# Altium integrated library Xilinx PLD XC7000.IntLib: 173 symbols (part 2 of 7)
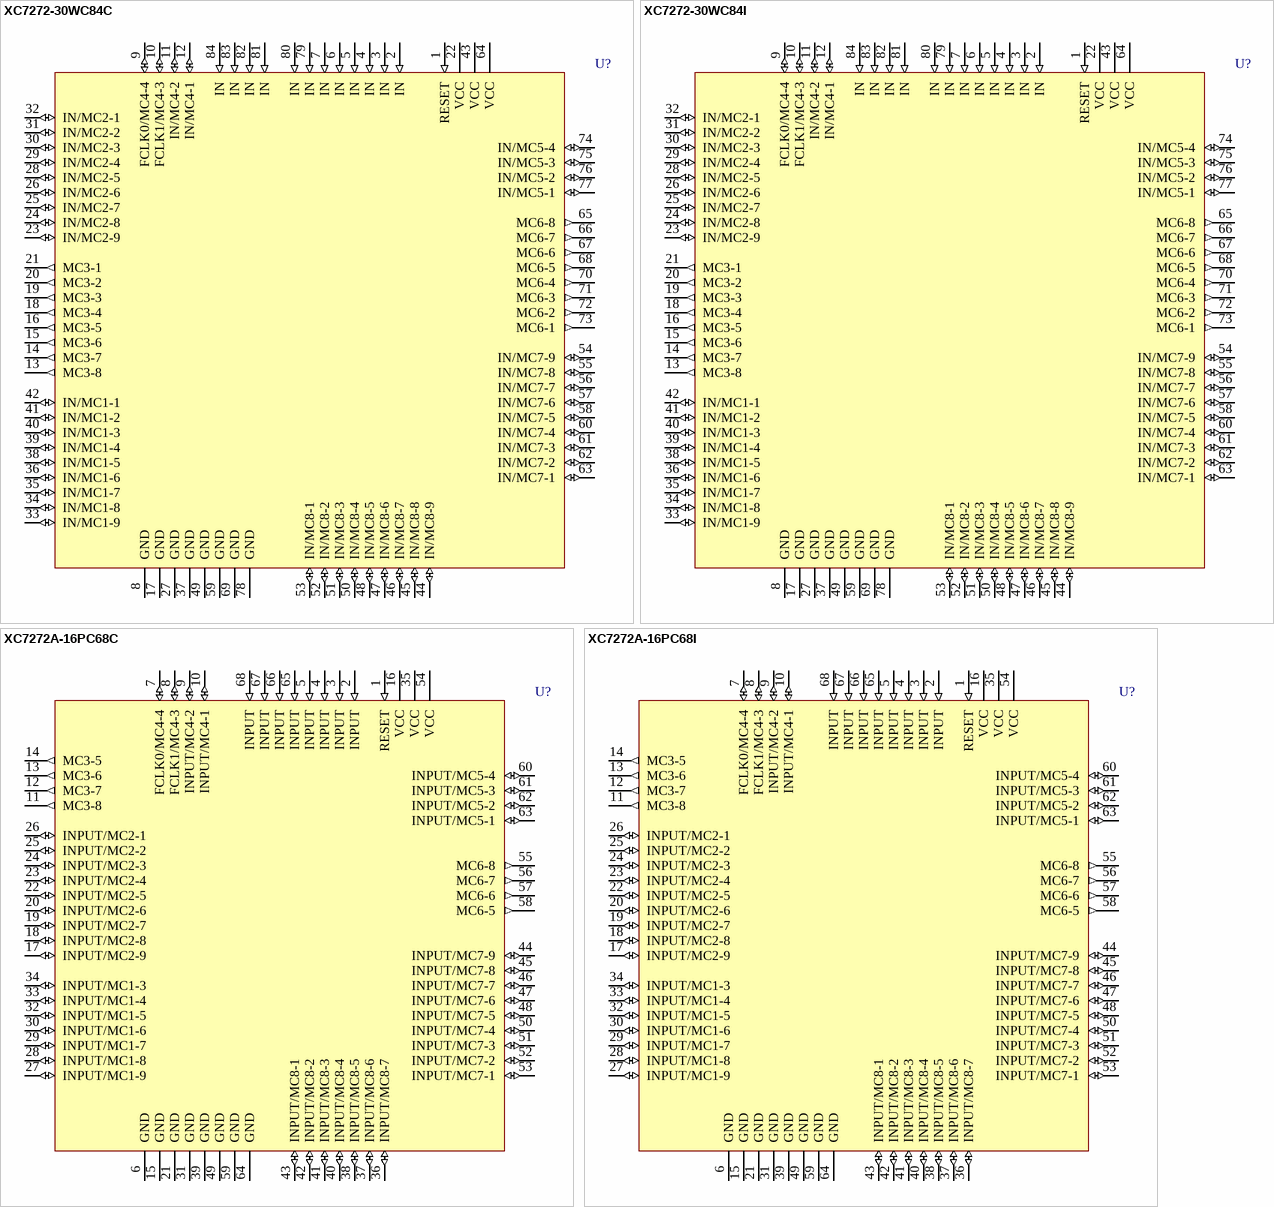
[diagram p48: symbols XC7272-30WC84C to XC7272A-16PC68I]

## XC7272-30WC84C
designator U?
Programmable Logic Device, with 42 I/O Pins, 84-Pin CLCC, Commercial Grade; PackageDocument: 1994; Published: 8-Jun-2000; LatestRevisionDate: 17-Jul-2002; LatestRevisionNote: Re-released for DXP Platform.; DatasheetDocument: 1993; PackageReference: WC84; Publisher: Altium Limited
footprint WC84 (84-Pin Windowed Ceramic Leaded Chip Carrier (WC84))
pins: 1 RESET (in), 2 IN (in), 3 IN (in), 4 IN (in), 5 IN (in), 6 IN (in), 7 IN (in), 8 GND (power), 9 FCLK0/MC4-4 (io), 10 FCLK1/MC4-3 (io), 11 IN/MC4-2 (io), 12 IN/MC4-1 (io), 13 MC3-8 (out), 14 MC3-7 (out), 15 MC3-6 (out), 16 MC3-5 (out), 17 GND (power), 18 MC3-4 (out), 19 MC3-3 (out), 20 MC3-2 (out), 21 MC3-1 (out), 22 VCC (power), 23 IN/MC2-9 (io), 24 IN/MC2-8 (io), 25 IN/MC2-7 (io), 26 IN/MC2-6 (io), 27 GND (power), 28 IN/MC2-5 (io), 29 IN/MC2-4 (io), 30 IN/MC2-3 (io), 31 IN/MC2-2 (io), 32 IN/MC2-1 (io), 33 IN/MC1-9 (io), 34 IN/MC1-8 (io), 35 IN/MC1-7 (io), 36 IN/MC1-6 (io), 37 GND (power), 38 IN/MC1-5 (io), 39 IN/MC1-4 (io), 40 IN/MC1-3 (io), 41 IN/MC1-2 (io), 42 IN/MC1-1 (io), 43 VCC (power), 44 IN/MC8-9 (io), 45 IN/MC8-8 (io), 46 IN/MC8-7 (io), 47 IN/MC8-6 (io), 48 IN/MC8-5 (io), 49 GND (power), 50 IN/MC8-4 (io), 51 IN/MC8-3 (io), 52 IN/MC8-2 (io), 53 IN/MC8-1 (io), 54 IN/MC7-9 (io), 55 IN/MC7-8 (io), 56 IN/MC7-7 (io), 57 IN/MC7-6 (io), 58 IN/MC7-5 (io), 59 GND (power), 60 IN/MC7-4 (io), 61 IN/MC7-3 (io), 62 IN/MC7-2 (io), 63 IN/MC7-1 (io), 64 VCC (power), 65 MC6-8 (out), 66 MC6-7 (out), 67 MC6-6 (out), 68 MC6-5 (out), 69 GND (power), 70 MC6-4 (out), 71 MC6-3 (out), 72 MC6-2 (out), 73 MC6-1 (out), 74 IN/MC5-4 (io), 75 IN/MC5-3 (io), 76 IN/MC5-2 (io), 77 IN/MC5-1 (io), 78 GND (power), 79 IN (in), 80 IN (in), 81 IN (in), 82 IN (in), 83 IN (in), 84 IN (in)

## XC7272-30WC84I
designator U?
Programmable Logic Device, with 42 I/O Pins, 84-Pin CLCC, Industrial Grade; PackageDocument: 1994; Published: 8-Jun-2000; LatestRevisionDate: 17-Jul-2002; LatestRevisionNote: Re-released for DXP Platform.; DatasheetDocument: 1993; PackageReference: WC84; Publisher: Altium Limited
footprint WC84 (84-Pin Windowed Ceramic Leaded Chip Carrier (WC84))
pins: 1 RESET (in), 2 IN (in), 3 IN (in), 4 IN (in), 5 IN (in), 6 IN (in), 7 IN (in), 8 GND (power), 9 FCLK0/MC4-4 (io), 10 FCLK1/MC4-3 (io), 11 IN/MC4-2 (io), 12 IN/MC4-1 (io), 13 MC3-8 (out), 14 MC3-7 (out), 15 MC3-6 (out), 16 MC3-5 (out), 17 GND (power), 18 MC3-4 (out), 19 MC3-3 (out), 20 MC3-2 (out), 21 MC3-1 (out), 22 VCC (power), 23 IN/MC2-9 (io), 24 IN/MC2-8 (io), 25 IN/MC2-7 (io), 26 IN/MC2-6 (io), 27 GND (power), 28 IN/MC2-5 (io), 29 IN/MC2-4 (io), 30 IN/MC2-3 (io), 31 IN/MC2-2 (io), 32 IN/MC2-1 (io), 33 IN/MC1-9 (io), 34 IN/MC1-8 (io), 35 IN/MC1-7 (io), 36 IN/MC1-6 (io), 37 GND (power), 38 IN/MC1-5 (io), 39 IN/MC1-4 (io), 40 IN/MC1-3 (io), 41 IN/MC1-2 (io), 42 IN/MC1-1 (io), 43 VCC (power), 44 IN/MC8-9 (io), 45 IN/MC8-8 (io), 46 IN/MC8-7 (io), 47 IN/MC8-6 (io), 48 IN/MC8-5 (io), 49 GND (power), 50 IN/MC8-4 (io), 51 IN/MC8-3 (io), 52 IN/MC8-2 (io), 53 IN/MC8-1 (io), 54 IN/MC7-9 (io), 55 IN/MC7-8 (io), 56 IN/MC7-7 (io), 57 IN/MC7-6 (io), 58 IN/MC7-5 (io), 59 GND (power), 60 IN/MC7-4 (io), 61 IN/MC7-3 (io), 62 IN/MC7-2 (io), 63 IN/MC7-1 (io), 64 VCC (power), 65 MC6-8 (out), 66 MC6-7 (out), 67 MC6-6 (out), 68 MC6-5 (out), 69 GND (power), 70 MC6-4 (out), 71 MC6-3 (out), 72 MC6-2 (out), 73 MC6-1 (out), 74 IN/MC5-4 (io), 75 IN/MC5-3 (io), 76 IN/MC5-2 (io), 77 IN/MC5-1 (io), 78 GND (power), 79 IN (in), 80 IN (in), 81 IN (in), 82 IN (in), 83 IN (in), 84 IN (in)

## XC7272A-16PC68C
designator U?
72 Macrocell CMOS EPLD, with 38 I/O Pins, 68-Pin PLCC, Commercial Grade; PackageDocument: ver1.0, Jun-2000; Published: 8-Jun-2000; LatestRevisionDate: 17-Sep-2003; LatestRevisionNote: PCB Footprint dimensions updated; DatasheetDocument: 1994; PackageReference: PC68; Publisher: Altium Limited; Code_JEDEC: MO-047; Code_IPC: PLCC-68
footprint PC68 (68-Pin Plastic Leaded Chip Carrier (PC68))
pins: 1 RESET (in), 2 INPUT (in), 3 INPUT (in), 4 INPUT (in), 5 INPUT (in), 6 GND (power), 7 FCLK0/MC4-4 (io), 8 FCLK1/MC4-3 (io), 9 INPUT/MC4-2 (io), 10 INPUT/MC4-1 (io), 11 MC3-8 (out), 12 MC3-7 (out), 13 MC3-6 (out), 14 MC3-5 (out), 15 GND (power), 16 VCC (power), 17 INPUT/MC2-9 (io), 18 INPUT/MC2-8 (io), 19 INPUT/MC2-7 (io), 20 INPUT/MC2-6 (io), 21 GND (power), 22 INPUT/MC2-5 (io), 23 INPUT/MC2-4 (io), 24 INPUT/MC2-3 (io), 25 INPUT/MC2-2 (io), 26 INPUT/MC2-1 (io), 27 INPUT/MC1-9 (io), 28 INPUT/MC1-8 (io), 29 INPUT/MC1-7 (io), 30 INPUT/MC1-6 (io), 31 GND (power), 32 INPUT/MC1-5 (io), 33 INPUT/MC1-4 (io), 34 INPUT/MC1-3 (io), 35 VCC (power), 36 INPUT/MC8-7 (io), 37 INPUT/MC8-6 (io), 38 INPUT/MC8-5 (io), 39 GND (power), 40 INPUT/MC8-4 (io), 41 INPUT/MC8-3 (io), 42 INPUT/MC8-2 (io), 43 INPUT/MC8-1 (io), 44 INPUT/MC7-9 (io), 45 INPUT/MC7-8 (io), 46 INPUT/MC7-7 (io), 47 INPUT/MC7-6 (io), 48 INPUT/MC7-5 (io), 49 GND (power), 50 INPUT/MC7-4 (io), 51 INPUT/MC7-3 (io), 52 INPUT/MC7-2 (io), 53 INPUT/MC7-1 (io), 54 VCC (power), 55 MC6-8 (out), 56 MC6-7 (out), 57 MC6-6 (out), 58 MC6-5 (out), 59 GND, 60 INPUT/MC5-4 (io), 61 INPUT/MC5-3 (io), 62 INPUT/MC5-2 (io), 63 INPUT/MC5-1 (io), 64 GND (power), 65 INPUT (in), 66 INPUT (in), 67 INPUT (in), 68 INPUT (in)

## XC7272A-16PC68I
designator U?
72 Macrocell CMOS EPLD, with 38 I/O Pins, 68-Pin PLCC, Industrial Grade; PackageDocument: ver1.0, Jun-2000; Published: 8-Jun-2000; LatestRevisionDate: 17-Sep-2003; LatestRevisionNote: PCB Footprint dimensions updated; DatasheetDocument: 1994; PackageReference: PC68; Publisher: Altium Limited; Code_JEDEC: MO-047; Code_IPC: PLCC-68
footprint PC68 (68-Pin Plastic Leaded Chip Carrier (PC68))
pins: 1 RESET (in), 2 INPUT (in), 3 INPUT (in), 4 INPUT (in), 5 INPUT (in), 6 GND (power), 7 FCLK0/MC4-4 (io), 8 FCLK1/MC4-3 (io), 9 INPUT/MC4-2 (io), 10 INPUT/MC4-1 (io), 11 MC3-8 (out), 12 MC3-7 (out), 13 MC3-6 (out), 14 MC3-5 (out), 15 GND (power), 16 VCC (power), 17 INPUT/MC2-9 (io), 18 INPUT/MC2-8 (io), 19 INPUT/MC2-7 (io), 20 INPUT/MC2-6 (io), 21 GND (power), 22 INPUT/MC2-5 (io), 23 INPUT/MC2-4 (io), 24 INPUT/MC2-3 (io), 25 INPUT/MC2-2 (io), 26 INPUT/MC2-1 (io), 27 INPUT/MC1-9 (io), 28 INPUT/MC1-8 (io), 29 INPUT/MC1-7 (io), 30 INPUT/MC1-6 (io), 31 GND (power), 32 INPUT/MC1-5 (io), 33 INPUT/MC1-4 (io), 34 INPUT/MC1-3 (io), 35 VCC (power), 36 INPUT/MC8-7 (io), 37 INPUT/MC8-6 (io), 38 INPUT/MC8-5 (io), 39 GND (power), 40 INPUT/MC8-4 (io), 41 INPUT/MC8-3 (io), 42 INPUT/MC8-2 (io), 43 INPUT/MC8-1 (io), 44 INPUT/MC7-9 (io), 45 INPUT/MC7-8 (io), 46 INPUT/MC7-7 (io), 47 INPUT/MC7-6 (io), 48 INPUT/MC7-5 (io), 49 GND (power), 50 INPUT/MC7-4 (io), 51 INPUT/MC7-3 (io), 52 INPUT/MC7-2 (io), 53 INPUT/MC7-1 (io), 54 VCC (power), 55 MC6-8 (out), 56 MC6-7 (out), 57 MC6-6 (out), 58 MC6-5 (out), 59 GND, 60 INPUT/MC5-4 (io), 61 INPUT/MC5-3 (io), 62 INPUT/MC5-2 (io), 63 INPUT/MC5-1 (io), 64 GND (power), 65 INPUT (in), 66 INPUT (in), 67 INPUT (in), 68 INPUT (in)

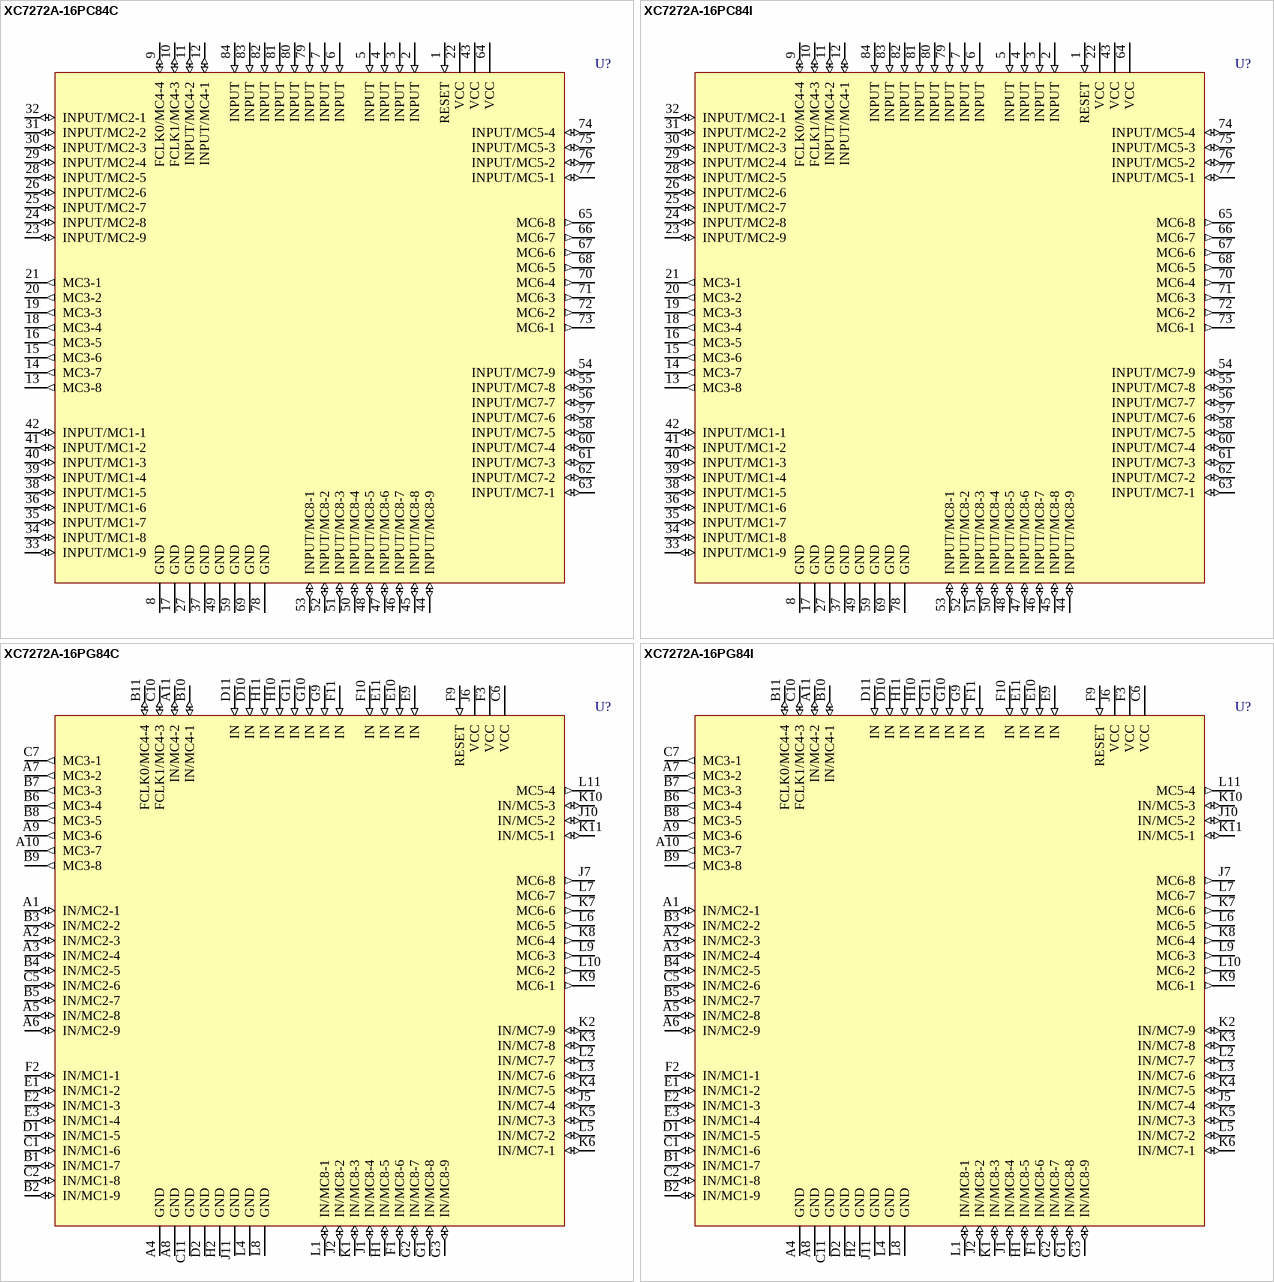
[diagram p7: symbols XC7272A-16PC84C to XC7272A-16PG84I]

## XC7272A-16PC84C
designator U?
72 Macrocell CMOS EPLD, with 42 I/O Pins, 84-Pin PLCC, Commercial Grade; PackageDocument: ver1.0, Jun-2000; Published: 8-Jun-2000; LatestRevisionDate: 17-Sep-2003; LatestRevisionNote: PCB Footprint dimensions updated; DatasheetDocument: 1994; PackageReference: PC84; Publisher: Altium Limited; Code_JEDEC: MS-047; Code_IPC: PLCC-84
footprint PC84 (84-Pin Plastic Leaded Chip Carrier (PC84))
pins: 1 RESET (in), 2 INPUT (in), 3 INPUT (in), 4 INPUT (in), 5 INPUT (in), 6 INPUT (in), 7 INPUT (in), 8 GND (power), 9 FCLK0/MC4-4 (io), 10 FCLK1/MC4-3 (io), 11 INPUT/MC4-2 (io), 12 INPUT/MC4-1 (io), 13 MC3-8 (out), 14 MC3-7 (out), 15 MC3-6 (out), 16 MC3-5 (out), 17 GND (power), 18 MC3-4 (out), 19 MC3-3 (out), 20 MC3-2 (out), 21 MC3-1 (out), 22 VCC (power), 23 INPUT/MC2-9 (io), 24 INPUT/MC2-8 (io), 25 INPUT/MC2-7 (io), 26 INPUT/MC2-6 (io), 27 GND (power), 28 INPUT/MC2-5 (io), 29 INPUT/MC2-4 (io), 30 INPUT/MC2-3 (io), 31 INPUT/MC2-2 (io), 32 INPUT/MC2-1 (io), 33 INPUT/MC1-9 (io), 34 INPUT/MC1-8 (io), 35 INPUT/MC1-7 (io), 36 INPUT/MC1-6 (io), 37 GND (power), 38 INPUT/MC1-5 (io), 39 INPUT/MC1-4 (io), 40 INPUT/MC1-3 (io), 41 INPUT/MC1-2 (io), 42 INPUT/MC1-1 (io), 43 VCC (power), 44 INPUT/MC8-9 (io), 45 INPUT/MC8-8 (io), 46 INPUT/MC8-7 (io), 47 INPUT/MC8-6 (io), 48 INPUT/MC8-5 (io), 49 GND (power), 50 INPUT/MC8-4 (io), 51 INPUT/MC8-3 (io), 52 INPUT/MC8-2 (io), 53 INPUT/MC8-1 (io), 54 INPUT/MC7-9 (io), 55 INPUT/MC7-8 (io), 56 INPUT/MC7-7 (io), 57 INPUT/MC7-6 (io), 58 INPUT/MC7-5 (io), 59 GND (power), 60 INPUT/MC7-4 (io), 61 INPUT/MC7-3 (io), 62 INPUT/MC7-2 (io), 63 INPUT/MC7-1 (io), 64 VCC (power), 65 MC6-8 (out), 66 MC6-7 (out), 67 MC6-6 (out), 68 MC6-5 (out), 69 GND (power), 70 MC6-4 (out), 71 MC6-3 (out), 72 MC6-2 (out), 73 MC6-1 (out), 74 INPUT/MC5-4 (io), 75 INPUT/MC5-3 (io), 76 INPUT/MC5-2 (io), 77 INPUT/MC5-1 (io), 78 GND (power), 79 INPUT (in), 80 INPUT (in), 81 INPUT (in), 82 INPUT (in), 83 INPUT (in), 84 INPUT (in)

## XC7272A-16PC84I
designator U?
72 Macrocell CMOS EPLD, with 42 I/O Pins, 84-Pin PLCC, Industrial Grade; PackageDocument: ver1.0, Jun-2000; Published: 8-Jun-2000; LatestRevisionDate: 17-Sep-2003; LatestRevisionNote: PCB Footprint dimensions updated; DatasheetDocument: 1994; PackageReference: PC84; Publisher: Altium Limited; Code_JEDEC: MS-047; Code_IPC: PLCC-84
footprint PC84 (84-Pin Plastic Leaded Chip Carrier (PC84))
pins: 1 RESET (in), 2 INPUT (in), 3 INPUT (in), 4 INPUT (in), 5 INPUT (in), 6 INPUT (in), 7 INPUT (in), 8 GND (power), 9 FCLK0/MC4-4 (io), 10 FCLK1/MC4-3 (io), 11 INPUT/MC4-2 (io), 12 INPUT/MC4-1 (io), 13 MC3-8 (out), 14 MC3-7 (out), 15 MC3-6 (out), 16 MC3-5 (out), 17 GND (power), 18 MC3-4 (out), 19 MC3-3 (out), 20 MC3-2 (out), 21 MC3-1 (out), 22 VCC (power), 23 INPUT/MC2-9 (io), 24 INPUT/MC2-8 (io), 25 INPUT/MC2-7 (io), 26 INPUT/MC2-6 (io), 27 GND (power), 28 INPUT/MC2-5 (io), 29 INPUT/MC2-4 (io), 30 INPUT/MC2-3 (io), 31 INPUT/MC2-2 (io), 32 INPUT/MC2-1 (io), 33 INPUT/MC1-9 (io), 34 INPUT/MC1-8 (io), 35 INPUT/MC1-7 (io), 36 INPUT/MC1-6 (io), 37 GND (power), 38 INPUT/MC1-5 (io), 39 INPUT/MC1-4 (io), 40 INPUT/MC1-3 (io), 41 INPUT/MC1-2 (io), 42 INPUT/MC1-1 (io), 43 VCC (power), 44 INPUT/MC8-9 (io), 45 INPUT/MC8-8 (io), 46 INPUT/MC8-7 (io), 47 INPUT/MC8-6 (io), 48 INPUT/MC8-5 (io), 49 GND (power), 50 INPUT/MC8-4 (io), 51 INPUT/MC8-3 (io), 52 INPUT/MC8-2 (io), 53 INPUT/MC8-1 (io), 54 INPUT/MC7-9 (io), 55 INPUT/MC7-8 (io), 56 INPUT/MC7-7 (io), 57 INPUT/MC7-6 (io), 58 INPUT/MC7-5 (io), 59 GND (power), 60 INPUT/MC7-4 (io), 61 INPUT/MC7-3 (io), 62 INPUT/MC7-2 (io), 63 INPUT/MC7-1 (io), 64 VCC (power), 65 MC6-8 (out), 66 MC6-7 (out), 67 MC6-6 (out), 68 MC6-5 (out), 69 GND (power), 70 MC6-4 (out), 71 MC6-3 (out), 72 MC6-2 (out), 73 MC6-1 (out), 74 INPUT/MC5-4 (io), 75 INPUT/MC5-3 (io), 76 INPUT/MC5-2 (io), 77 INPUT/MC5-1 (io), 78 GND (power), 79 INPUT (in), 80 INPUT (in), 81 INPUT (in), 82 INPUT (in), 83 INPUT (in), 84 INPUT (in)

## XC7272A-16PG84C
designator U?
72 Macrocell CMOS EPLD, with 42 I/O Pins, 84-Pin WCPGA, Commercial Grade; PackageDocument: 1994; Published: 8-Jun-2000; LatestRevisionDate: 17-Jul-2002; LatestRevisionNote: Re-released for DXP Platform.; DatasheetDocument: 1994; PackageReference: WG84; Publisher: Altium Limited
footprint WG84 (84-Pin Windowed Ceramic PGA (PG84))
pins: A1 IN/MC2-1 (io), A2 IN/MC2-3 (io), A3 IN/MC2-4 (io), A4 GND (power), A5 IN/MC2-8 (io), A6 IN/MC2-9 (io), A7 MC3-2 (out), A8 GND (power), A9 MC3-6 (out), A10 MC3-7 (out), A11 IN/MC4-2 (io), B1 IN/MC1-7 (io), B2 IN/MC1-9 (io), B3 IN/MC2-2 (io), B4 IN/MC2-5 (io), B5 IN/MC2-7 (io), B6 MC3-4 (out), B7 MC3-3 (out), B8 MC3-5 (out), B9 MC3-8 (out), B10 IN/MC4-1 (io), B11 FCLK0/MC4-4 (io), C1 IN/MC1-6 (io), C2 IN/MC1-8 (io), C5 IN/MC2-6 (io), C6 VCC (power), C7 MC3-1 (out), C10 FCLK1/MC4-3 (io), C11 GND (power), D1 IN/MC1-5 (io), D2 GND (power), D10 IN (in), D11 IN (in), E1 IN/MC1-2 (io), E2 IN/MC1-3 (io), E3 IN/MC1-4 (io), E9 IN (in), E10 IN (in), E11 IN (in), F1 IN/MC8-6 (io), F2 IN/MC1-1 (io), F3 VCC (power), F9 RESET (in), F10 IN (in), F11 IN (in), G1 IN/MC8-8 (io), G2 IN/MC8-7 (io), G3 IN/MC8-9 (io), G9 IN (in), G10 IN (in), G11 IN (in), H1 IN/MC8-5 (io), H2 GND (power), H10 IN (in), H11 IN (in), J1 IN/MC8-4 (io), J2 IN/MC8-2 (io), J5 IN/MC7-4 (io), J6 VCC (power), J7 MC6-8 (out), J10 IN/MC5-2 (io), J11 GND (power), K1 IN/MC8-3 (io), K2 IN/MC7-9 (io), K3 IN/MC7-8 (io), K4 IN/MC7-5 (io), K5 IN/MC7-3 (io), K6 IN/MC7-1 (io), K7 MC6-6 (out), K8 MC6-4 (out), K9 MC6-1 (out), K10 IN/MC5-3 (io), K11 IN/MC5-1 (io), L1 IN/MC8-1 (io), L2 IN/MC7-7 (io), L3 IN/MC7-6 (io), L4 GND (power), L5 IN/MC7-2 (io), L6 MC6-5 (out), L7 MC6-7 (out), L8 GND (power), L9 MC6-3 (out), L10 MC6-2 (out), L11 MC5-4 (out)

## XC7272A-16PG84I
designator U?
72 Macrocell CMOS EPLD, with 42 I/O Pins, 84-Pin WCPGA, Industrial Grade; PackageDocument: 1994; Published: 8-Jun-2000; LatestRevisionDate: 17-Jul-2002; LatestRevisionNote: Re-released for DXP Platform.; DatasheetDocument: 1994; PackageReference: WG84; Publisher: Altium Limited
footprint WG84 (84-Pin Windowed Ceramic PGA (PG84))
pins: A1 IN/MC2-1 (io), A2 IN/MC2-3 (io), A3 IN/MC2-4 (io), A4 GND (power), A5 IN/MC2-8 (io), A6 IN/MC2-9 (io), A7 MC3-2 (out), A8 GND (power), A9 MC3-6 (out), A10 MC3-7 (out), A11 IN/MC4-2 (io), B1 IN/MC1-7 (io), B2 IN/MC1-9 (io), B3 IN/MC2-2 (io), B4 IN/MC2-5 (io), B5 IN/MC2-7 (io), B6 MC3-4 (out), B7 MC3-3 (out), B8 MC3-5 (out), B9 MC3-8 (out), B10 IN/MC4-1 (io), B11 FCLK0/MC4-4 (io), C1 IN/MC1-6 (io), C2 IN/MC1-8 (io), C5 IN/MC2-6 (io), C6 VCC (power), C7 MC3-1 (out), C10 FCLK1/MC4-3 (io), C11 GND (power), D1 IN/MC1-5 (io), D2 GND (power), D10 IN (in), D11 IN (in), E1 IN/MC1-2 (io), E2 IN/MC1-3 (io), E3 IN/MC1-4 (io), E9 IN (in), E10 IN (in), E11 IN (in), F1 IN/MC8-6 (io), F2 IN/MC1-1 (io), F3 VCC (power), F9 RESET (in), F10 IN (in), F11 IN (in), G1 IN/MC8-8 (io), G2 IN/MC8-7 (io), G3 IN/MC8-9 (io), G9 IN (in), G10 IN (in), G11 IN (in), H1 IN/MC8-5 (io), H2 GND (power), H10 IN (in), H11 IN (in), J1 IN/MC8-4 (io), J2 IN/MC8-2 (io), J5 IN/MC7-4 (io), J6 VCC (power), J7 MC6-8 (out), J10 IN/MC5-2 (io), J11 GND (power), K1 IN/MC8-3 (io), K2 IN/MC7-9 (io), K3 IN/MC7-8 (io), K4 IN/MC7-5 (io), K5 IN/MC7-3 (io), K6 IN/MC7-1 (io), K7 MC6-6 (out), K8 MC6-4 (out), K9 MC6-1 (out), K10 IN/MC5-3 (io), K11 IN/MC5-1 (io), L1 IN/MC8-1 (io), L2 IN/MC7-7 (io), L3 IN/MC7-6 (io), L4 GND (power), L5 IN/MC7-2 (io), L6 MC6-5 (out), L7 MC6-7 (out), L8 GND (power), L9 MC6-3 (out), L10 MC6-2 (out), L11 MC5-4 (out)

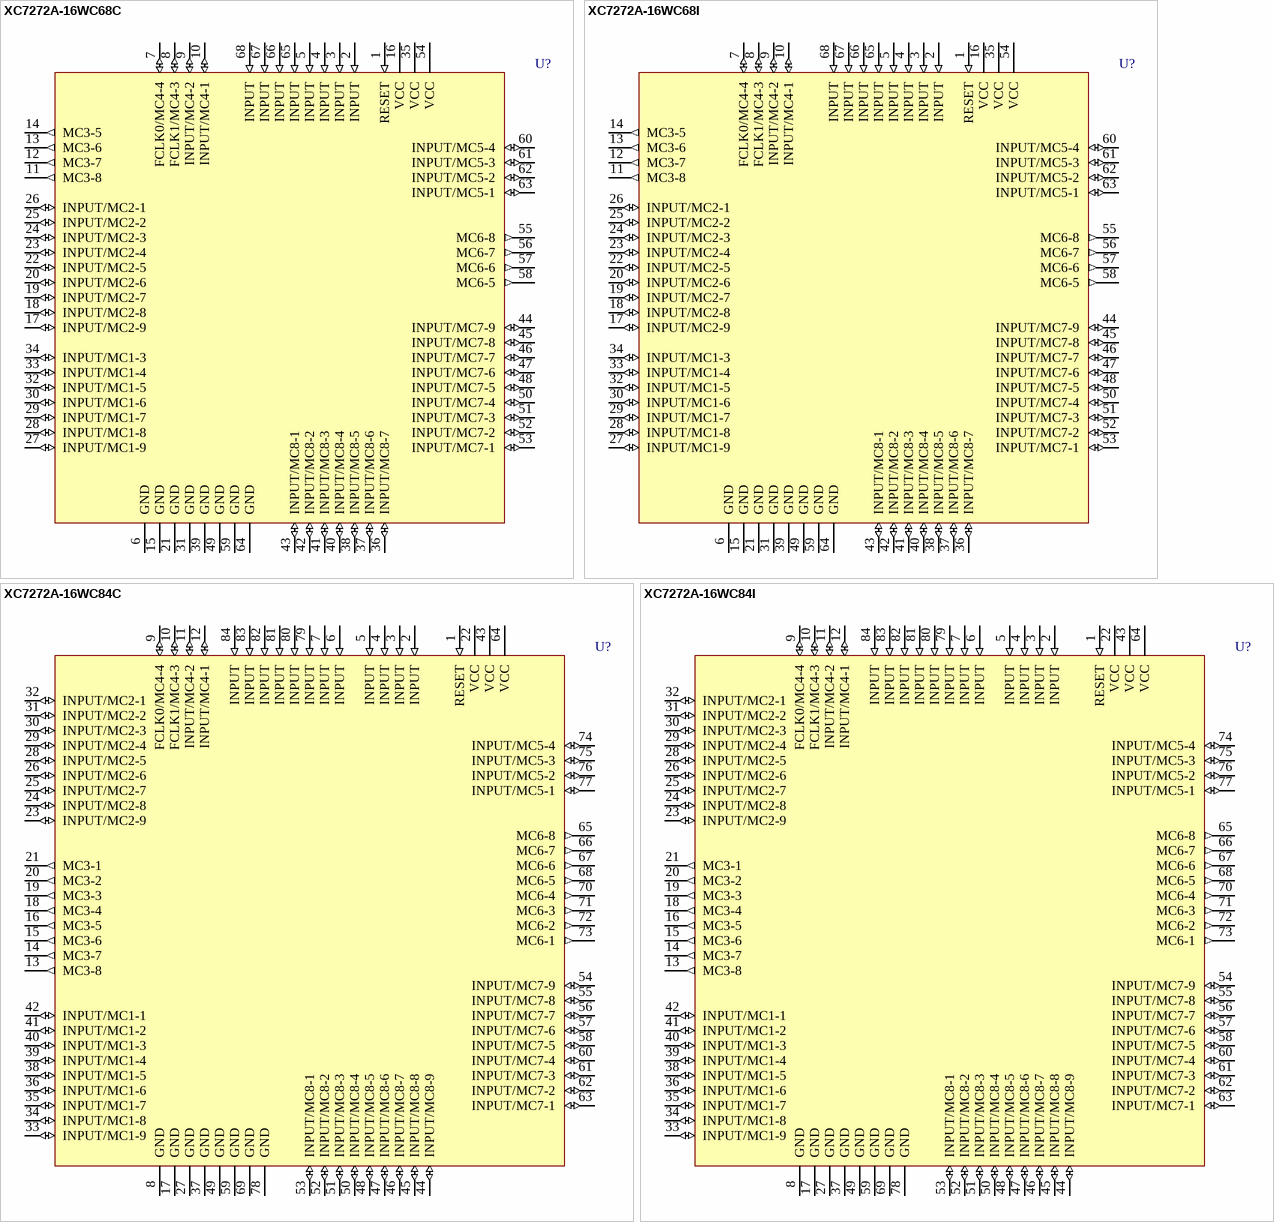
[diagram p8: symbols XC7272A-16WC68C to XC7272A-16WC84I]

## XC7272A-16WC68C
designator U?
72 Macrocell CMOS EPLD, with 38 I/O Pins, 68-Pin CLCC, Commercial Grade; PackageDocument: 1994; Published: 8-Jun-2000; LatestRevisionDate: 17-Jul-2002; LatestRevisionNote: Re-released for DXP Platform.; DatasheetDocument: 1994; PackageReference: WC68; Publisher: Altium Limited
footprint WC68 (68-Pin Windowed Ceramic Leaded Chip Carrier (WC68))
pins: 1 RESET (in), 2 INPUT (in), 3 INPUT (in), 4 INPUT (in), 5 INPUT (in), 6 GND (power), 7 FCLK0/MC4-4 (io), 8 FCLK1/MC4-3 (io), 9 INPUT/MC4-2 (io), 10 INPUT/MC4-1 (io), 11 MC3-8 (out), 12 MC3-7 (out), 13 MC3-6 (out), 14 MC3-5 (out), 15 GND (power), 16 VCC (power), 17 INPUT/MC2-9 (io), 18 INPUT/MC2-8 (io), 19 INPUT/MC2-7 (io), 20 INPUT/MC2-6 (io), 21 GND (power), 22 INPUT/MC2-5 (io), 23 INPUT/MC2-4 (io), 24 INPUT/MC2-3 (io), 25 INPUT/MC2-2 (io), 26 INPUT/MC2-1 (io), 27 INPUT/MC1-9 (io), 28 INPUT/MC1-8 (io), 29 INPUT/MC1-7 (io), 30 INPUT/MC1-6 (io), 31 GND (power), 32 INPUT/MC1-5 (io), 33 INPUT/MC1-4 (io), 34 INPUT/MC1-3 (io), 35 VCC (power), 36 INPUT/MC8-7 (io), 37 INPUT/MC8-6 (io), 38 INPUT/MC8-5 (io), 39 GND (power), 40 INPUT/MC8-4 (io), 41 INPUT/MC8-3 (io), 42 INPUT/MC8-2 (io), 43 INPUT/MC8-1 (io), 44 INPUT/MC7-9 (io), 45 INPUT/MC7-8 (io), 46 INPUT/MC7-7 (io), 47 INPUT/MC7-6 (io), 48 INPUT/MC7-5 (io), 49 GND (power), 50 INPUT/MC7-4 (io), 51 INPUT/MC7-3 (io), 52 INPUT/MC7-2 (io), 53 INPUT/MC7-1 (io), 54 VCC (power), 55 MC6-8 (out), 56 MC6-7 (out), 57 MC6-6 (out), 58 MC6-5 (out), 59 GND, 60 INPUT/MC5-4 (io), 61 INPUT/MC5-3 (io), 62 INPUT/MC5-2 (io), 63 INPUT/MC5-1 (io), 64 GND (power), 65 INPUT (in), 66 INPUT (in), 67 INPUT (in), 68 INPUT (in)

## XC7272A-16WC68I
designator U?
72 Macrocell CMOS EPLD, with 38 I/O Pins, 68-Pin CLCC, Industrial Grade; PackageDocument: 1994; Published: 8-Jun-2000; LatestRevisionDate: 17-Jul-2002; LatestRevisionNote: Re-released for DXP Platform.; DatasheetDocument: 1994; PackageReference: WC68; Publisher: Altium Limited
footprint WC68 (68-Pin Windowed Ceramic Leaded Chip Carrier (WC68))
pins: 1 RESET (in), 2 INPUT (in), 3 INPUT (in), 4 INPUT (in), 5 INPUT (in), 6 GND (power), 7 FCLK0/MC4-4 (io), 8 FCLK1/MC4-3 (io), 9 INPUT/MC4-2 (io), 10 INPUT/MC4-1 (io), 11 MC3-8 (out), 12 MC3-7 (out), 13 MC3-6 (out), 14 MC3-5 (out), 15 GND (power), 16 VCC (power), 17 INPUT/MC2-9 (io), 18 INPUT/MC2-8 (io), 19 INPUT/MC2-7 (io), 20 INPUT/MC2-6 (io), 21 GND (power), 22 INPUT/MC2-5 (io), 23 INPUT/MC2-4 (io), 24 INPUT/MC2-3 (io), 25 INPUT/MC2-2 (io), 26 INPUT/MC2-1 (io), 27 INPUT/MC1-9 (io), 28 INPUT/MC1-8 (io), 29 INPUT/MC1-7 (io), 30 INPUT/MC1-6 (io), 31 GND (power), 32 INPUT/MC1-5 (io), 33 INPUT/MC1-4 (io), 34 INPUT/MC1-3 (io), 35 VCC (power), 36 INPUT/MC8-7 (io), 37 INPUT/MC8-6 (io), 38 INPUT/MC8-5 (io), 39 GND (power), 40 INPUT/MC8-4 (io), 41 INPUT/MC8-3 (io), 42 INPUT/MC8-2 (io), 43 INPUT/MC8-1 (io), 44 INPUT/MC7-9 (io), 45 INPUT/MC7-8 (io), 46 INPUT/MC7-7 (io), 47 INPUT/MC7-6 (io), 48 INPUT/MC7-5 (io), 49 GND (power), 50 INPUT/MC7-4 (io), 51 INPUT/MC7-3 (io), 52 INPUT/MC7-2 (io), 53 INPUT/MC7-1 (io), 54 VCC (power), 55 MC6-8 (out), 56 MC6-7 (out), 57 MC6-6 (out), 58 MC6-5 (out), 59 GND, 60 INPUT/MC5-4 (io), 61 INPUT/MC5-3 (io), 62 INPUT/MC5-2 (io), 63 INPUT/MC5-1 (io), 64 GND (power), 65 INPUT (in), 66 INPUT (in), 67 INPUT (in), 68 INPUT (in)

## XC7272A-16WC84C
designator U?
72 Macrocell CMOS EPLD, with 42 I/O Pins, 84-Pin CLCC, Commercial Grade; PackageDocument: 1994; Published: 8-Jun-2000; LatestRevisionDate: 17-Jul-2002; LatestRevisionNote: Re-released for DXP Platform.; DatasheetDocument: 1994; PackageReference: WC84; Publisher: Altium Limited
footprint WC84 (84-Pin Windowed Ceramic Leaded Chip Carrier (WC84))
pins: 1 RESET (in), 2 INPUT (in), 3 INPUT (in), 4 INPUT (in), 5 INPUT (in), 6 INPUT (in), 7 INPUT (in), 8 GND (power), 9 FCLK0/MC4-4 (io), 10 FCLK1/MC4-3 (io), 11 INPUT/MC4-2 (io), 12 INPUT/MC4-1 (io), 13 MC3-8 (out), 14 MC3-7 (out), 15 MC3-6 (out), 16 MC3-5 (out), 17 GND (power), 18 MC3-4 (out), 19 MC3-3 (out), 20 MC3-2 (out), 21 MC3-1 (out), 22 VCC (power), 23 INPUT/MC2-9 (io), 24 INPUT/MC2-8 (io), 25 INPUT/MC2-7 (io), 26 INPUT/MC2-6 (io), 27 GND (power), 28 INPUT/MC2-5 (io), 29 INPUT/MC2-4 (io), 30 INPUT/MC2-3 (io), 31 INPUT/MC2-2 (io), 32 INPUT/MC2-1 (io), 33 INPUT/MC1-9 (io), 34 INPUT/MC1-8 (io), 35 INPUT/MC1-7 (io), 36 INPUT/MC1-6 (io), 37 GND (power), 38 INPUT/MC1-5 (io), 39 INPUT/MC1-4 (io), 40 INPUT/MC1-3 (io), 41 INPUT/MC1-2 (io), 42 INPUT/MC1-1 (io), 43 VCC (power), 44 INPUT/MC8-9 (io), 45 INPUT/MC8-8 (io), 46 INPUT/MC8-7 (io), 47 INPUT/MC8-6 (io), 48 INPUT/MC8-5 (io), 49 GND (power), 50 INPUT/MC8-4 (io), 51 INPUT/MC8-3 (io), 52 INPUT/MC8-2 (io), 53 INPUT/MC8-1 (io), 54 INPUT/MC7-9 (io), 55 INPUT/MC7-8 (io), 56 INPUT/MC7-7 (io), 57 INPUT/MC7-6 (io), 58 INPUT/MC7-5 (io), 59 GND (power), 60 INPUT/MC7-4 (io), 61 INPUT/MC7-3 (io), 62 INPUT/MC7-2 (io), 63 INPUT/MC7-1 (io), 64 VCC (power), 65 MC6-8 (out), 66 MC6-7 (out), 67 MC6-6 (out), 68 MC6-5 (out), 69 GND (power), 70 MC6-4 (out), 71 MC6-3 (out), 72 MC6-2 (out), 73 MC6-1 (out), 74 INPUT/MC5-4 (io), 75 INPUT/MC5-3 (io), 76 INPUT/MC5-2 (io), 77 INPUT/MC5-1 (io), 78 GND (power), 79 INPUT (in), 80 INPUT (in), 81 INPUT (in), 82 INPUT (in), 83 INPUT (in), 84 INPUT (in)

## XC7272A-16WC84I
designator U?
72 Macrocell CMOS EPLD, with 42 I/O Pins, 84-Pin CLCC, Industrial Grade; PackageDocument: 1994; Published: 8-Jun-2000; LatestRevisionDate: 17-Jul-2002; LatestRevisionNote: Re-released for DXP Platform.; DatasheetDocument: 1994; PackageReference: WC84; Publisher: Altium Limited
footprint WC84 (84-Pin Windowed Ceramic Leaded Chip Carrier (WC84))
pins: 1 RESET (in), 2 INPUT (in), 3 INPUT (in), 4 INPUT (in), 5 INPUT (in), 6 INPUT (in), 7 INPUT (in), 8 GND (power), 9 FCLK0/MC4-4 (io), 10 FCLK1/MC4-3 (io), 11 INPUT/MC4-2 (io), 12 INPUT/MC4-1 (io), 13 MC3-8 (out), 14 MC3-7 (out), 15 MC3-6 (out), 16 MC3-5 (out), 17 GND (power), 18 MC3-4 (out), 19 MC3-3 (out), 20 MC3-2 (out), 21 MC3-1 (out), 22 VCC (power), 23 INPUT/MC2-9 (io), 24 INPUT/MC2-8 (io), 25 INPUT/MC2-7 (io), 26 INPUT/MC2-6 (io), 27 GND (power), 28 INPUT/MC2-5 (io), 29 INPUT/MC2-4 (io), 30 INPUT/MC2-3 (io), 31 INPUT/MC2-2 (io), 32 INPUT/MC2-1 (io), 33 INPUT/MC1-9 (io), 34 INPUT/MC1-8 (io), 35 INPUT/MC1-7 (io), 36 INPUT/MC1-6 (io), 37 GND (power), 38 INPUT/MC1-5 (io), 39 INPUT/MC1-4 (io), 40 INPUT/MC1-3 (io), 41 INPUT/MC1-2 (io), 42 INPUT/MC1-1 (io), 43 VCC (power), 44 INPUT/MC8-9 (io), 45 INPUT/MC8-8 (io), 46 INPUT/MC8-7 (io), 47 INPUT/MC8-6 (io), 48 INPUT/MC8-5 (io), 49 GND (power), 50 INPUT/MC8-4 (io), 51 INPUT/MC8-3 (io), 52 INPUT/MC8-2 (io), 53 INPUT/MC8-1 (io), 54 INPUT/MC7-9 (io), 55 INPUT/MC7-8 (io), 56 INPUT/MC7-7 (io), 57 INPUT/MC7-6 (io), 58 INPUT/MC7-5 (io), 59 GND (power), 60 INPUT/MC7-4 (io), 61 INPUT/MC7-3 (io), 62 INPUT/MC7-2 (io), 63 INPUT/MC7-1 (io), 64 VCC (power), 65 MC6-8 (out), 66 MC6-7 (out), 67 MC6-6 (out), 68 MC6-5 (out), 69 GND (power), 70 MC6-4 (out), 71 MC6-3 (out), 72 MC6-2 (out), 73 MC6-1 (out), 74 INPUT/MC5-4 (io), 75 INPUT/MC5-3 (io), 76 INPUT/MC5-2 (io), 77 INPUT/MC5-1 (io), 78 GND (power), 79 INPUT (in), 80 INPUT (in), 81 INPUT (in), 82 INPUT (in), 83 INPUT (in), 84 INPUT (in)

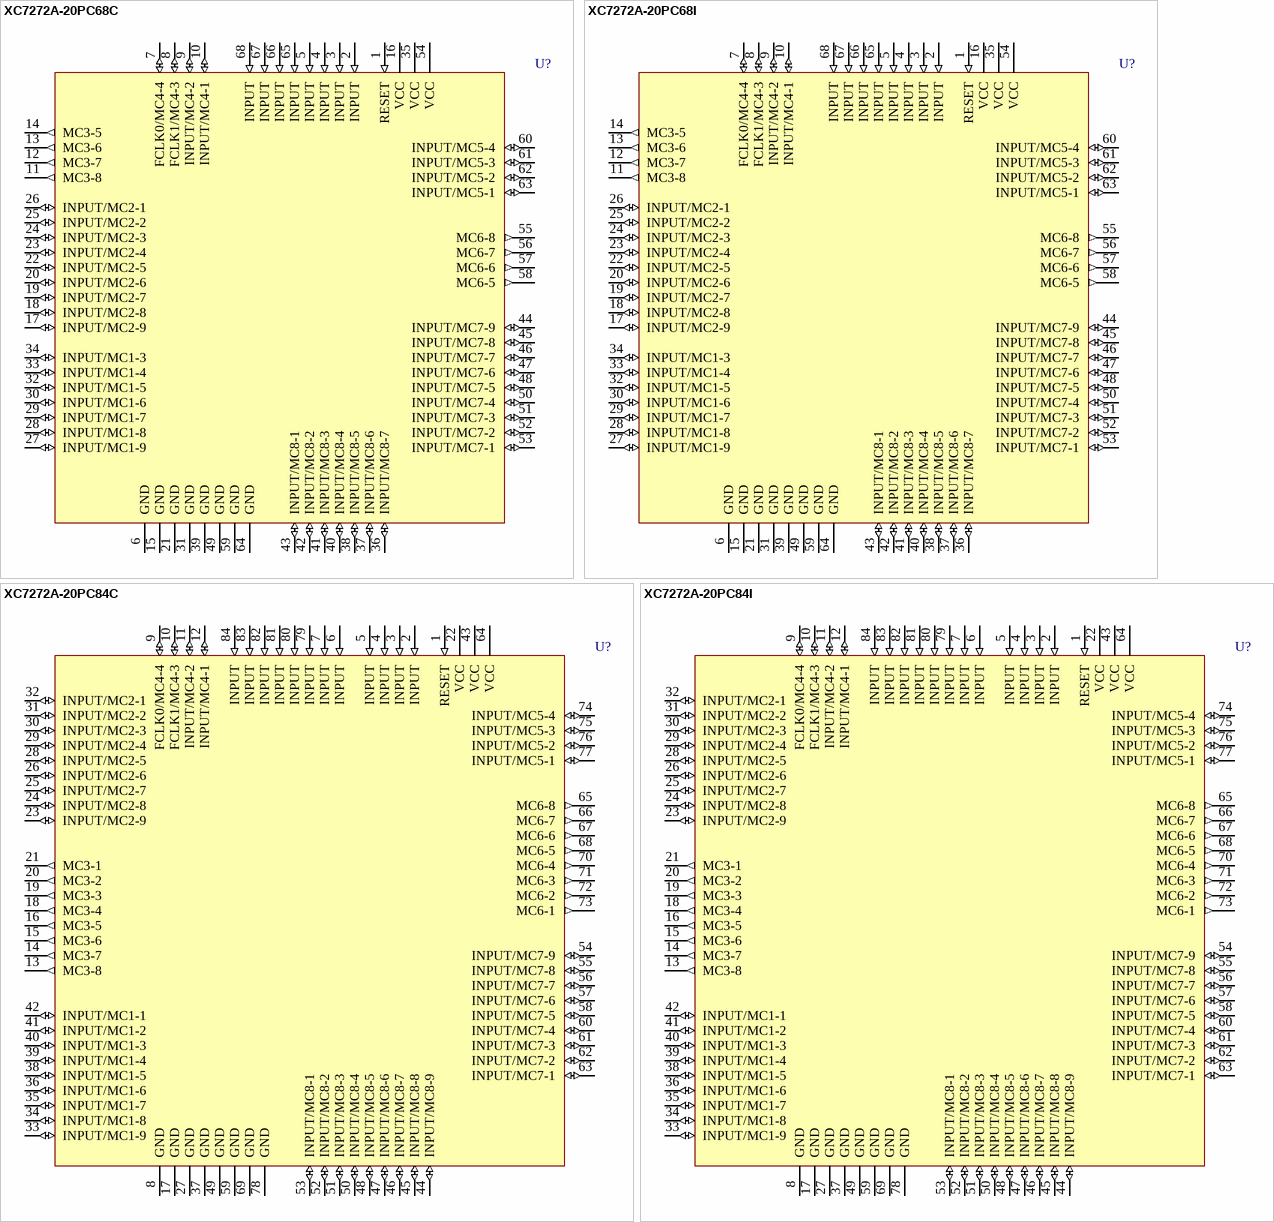
[diagram p9: symbols XC7272A-20PC68C to XC7272A-20PC84I]

## XC7272A-20PC68C
designator U?
72 Macrocell CMOS EPLD, with 38 I/O Pins, 68-Pin PLCC, Commercial Grade; PackageDocument: ver1.0, Jun-2000; Published: 8-Jun-2000; LatestRevisionDate: 17-Sep-2003; LatestRevisionNote: PCB Footprint dimensions updated; DatasheetDocument: 1994; PackageReference: PC68; Publisher: Altium Limited; Code_JEDEC: MO-047; Code_IPC: PLCC-68
footprint PC68 (68-Pin Plastic Leaded Chip Carrier (PC68))
pins: 1 RESET (in), 2 INPUT (in), 3 INPUT (in), 4 INPUT (in), 5 INPUT (in), 6 GND (power), 7 FCLK0/MC4-4 (io), 8 FCLK1/MC4-3 (io), 9 INPUT/MC4-2 (io), 10 INPUT/MC4-1 (io), 11 MC3-8 (out), 12 MC3-7 (out), 13 MC3-6 (out), 14 MC3-5 (out), 15 GND (power), 16 VCC (power), 17 INPUT/MC2-9 (io), 18 INPUT/MC2-8 (io), 19 INPUT/MC2-7 (io), 20 INPUT/MC2-6 (io), 21 GND (power), 22 INPUT/MC2-5 (io), 23 INPUT/MC2-4 (io), 24 INPUT/MC2-3 (io), 25 INPUT/MC2-2 (io), 26 INPUT/MC2-1 (io), 27 INPUT/MC1-9 (io), 28 INPUT/MC1-8 (io), 29 INPUT/MC1-7 (io), 30 INPUT/MC1-6 (io), 31 GND (power), 32 INPUT/MC1-5 (io), 33 INPUT/MC1-4 (io), 34 INPUT/MC1-3 (io), 35 VCC (power), 36 INPUT/MC8-7 (io), 37 INPUT/MC8-6 (io), 38 INPUT/MC8-5 (io), 39 GND (power), 40 INPUT/MC8-4 (io), 41 INPUT/MC8-3 (io), 42 INPUT/MC8-2 (io), 43 INPUT/MC8-1 (io), 44 INPUT/MC7-9 (io), 45 INPUT/MC7-8 (io), 46 INPUT/MC7-7 (io), 47 INPUT/MC7-6 (io), 48 INPUT/MC7-5 (io), 49 GND (power), 50 INPUT/MC7-4 (io), 51 INPUT/MC7-3 (io), 52 INPUT/MC7-2 (io), 53 INPUT/MC7-1 (io), 54 VCC (power), 55 MC6-8 (out), 56 MC6-7 (out), 57 MC6-6 (out), 58 MC6-5 (out), 59 GND, 60 INPUT/MC5-4 (io), 61 INPUT/MC5-3 (io), 62 INPUT/MC5-2 (io), 63 INPUT/MC5-1 (io), 64 GND (power), 65 INPUT (in), 66 INPUT (in), 67 INPUT (in), 68 INPUT (in)

## XC7272A-20PC68I
designator U?
72 Macrocell CMOS EPLD, with 38 I/O Pins, 68-Pin PLCC, Industrial Grade; PackageDocument: ver1.0, Jun-2000; Published: 8-Jun-2000; LatestRevisionDate: 17-Sep-2003; LatestRevisionNote: PCB Footprint dimensions updated; DatasheetDocument: 1994; PackageReference: PC68; Publisher: Altium Limited; Code_JEDEC: MO-047; Code_IPC: PLCC-68
footprint PC68 (68-Pin Plastic Leaded Chip Carrier (PC68))
pins: 1 RESET (in), 2 INPUT (in), 3 INPUT (in), 4 INPUT (in), 5 INPUT (in), 6 GND (power), 7 FCLK0/MC4-4 (io), 8 FCLK1/MC4-3 (io), 9 INPUT/MC4-2 (io), 10 INPUT/MC4-1 (io), 11 MC3-8 (out), 12 MC3-7 (out), 13 MC3-6 (out), 14 MC3-5 (out), 15 GND (power), 16 VCC (power), 17 INPUT/MC2-9 (io), 18 INPUT/MC2-8 (io), 19 INPUT/MC2-7 (io), 20 INPUT/MC2-6 (io), 21 GND (power), 22 INPUT/MC2-5 (io), 23 INPUT/MC2-4 (io), 24 INPUT/MC2-3 (io), 25 INPUT/MC2-2 (io), 26 INPUT/MC2-1 (io), 27 INPUT/MC1-9 (io), 28 INPUT/MC1-8 (io), 29 INPUT/MC1-7 (io), 30 INPUT/MC1-6 (io), 31 GND (power), 32 INPUT/MC1-5 (io), 33 INPUT/MC1-4 (io), 34 INPUT/MC1-3 (io), 35 VCC (power), 36 INPUT/MC8-7 (io), 37 INPUT/MC8-6 (io), 38 INPUT/MC8-5 (io), 39 GND (power), 40 INPUT/MC8-4 (io), 41 INPUT/MC8-3 (io), 42 INPUT/MC8-2 (io), 43 INPUT/MC8-1 (io), 44 INPUT/MC7-9 (io), 45 INPUT/MC7-8 (io), 46 INPUT/MC7-7 (io), 47 INPUT/MC7-6 (io), 48 INPUT/MC7-5 (io), 49 GND (power), 50 INPUT/MC7-4 (io), 51 INPUT/MC7-3 (io), 52 INPUT/MC7-2 (io), 53 INPUT/MC7-1 (io), 54 VCC (power), 55 MC6-8 (out), 56 MC6-7 (out), 57 MC6-6 (out), 58 MC6-5 (out), 59 GND, 60 INPUT/MC5-4 (io), 61 INPUT/MC5-3 (io), 62 INPUT/MC5-2 (io), 63 INPUT/MC5-1 (io), 64 GND (power), 65 INPUT (in), 66 INPUT (in), 67 INPUT (in), 68 INPUT (in)

## XC7272A-20PC84C
designator U?
72 Macrocell CMOS EPLD, with 42 I/O Pins, 84-Pin PLCC, Commercial Grade; PackageDocument: ver1.0, Jun-2000; Published: 8-Jun-2000; LatestRevisionDate: 17-Sep-2003; LatestRevisionNote: PCB Footprint dimensions updated; DatasheetDocument: 1994; PackageReference: PC84; Publisher: Altium Limited; Code_JEDEC: MS-047; Code_IPC: PLCC-84
footprint PC84 (84-Pin Plastic Leaded Chip Carrier (PC84))
pins: 1 RESET (in), 2 INPUT (in), 3 INPUT (in), 4 INPUT (in), 5 INPUT (in), 6 INPUT (in), 7 INPUT (in), 8 GND (power), 9 FCLK0/MC4-4 (io), 10 FCLK1/MC4-3 (io), 11 INPUT/MC4-2 (io), 12 INPUT/MC4-1 (io), 13 MC3-8 (out), 14 MC3-7 (out), 15 MC3-6 (out), 16 MC3-5 (out), 17 GND (power), 18 MC3-4 (out), 19 MC3-3 (out), 20 MC3-2 (out), 21 MC3-1 (out), 22 VCC (power), 23 INPUT/MC2-9 (io), 24 INPUT/MC2-8 (io), 25 INPUT/MC2-7 (io), 26 INPUT/MC2-6 (io), 27 GND (power), 28 INPUT/MC2-5 (io), 29 INPUT/MC2-4 (io), 30 INPUT/MC2-3 (io), 31 INPUT/MC2-2 (io), 32 INPUT/MC2-1 (io), 33 INPUT/MC1-9 (io), 34 INPUT/MC1-8 (io), 35 INPUT/MC1-7 (io), 36 INPUT/MC1-6 (io), 37 GND (power), 38 INPUT/MC1-5 (io), 39 INPUT/MC1-4 (io), 40 INPUT/MC1-3 (io), 41 INPUT/MC1-2 (io), 42 INPUT/MC1-1 (io), 43 VCC (power), 44 INPUT/MC8-9 (io), 45 INPUT/MC8-8 (io), 46 INPUT/MC8-7 (io), 47 INPUT/MC8-6 (io), 48 INPUT/MC8-5 (io), 49 GND (power), 50 INPUT/MC8-4 (io), 51 INPUT/MC8-3 (io), 52 INPUT/MC8-2 (io), 53 INPUT/MC8-1 (io), 54 INPUT/MC7-9 (io), 55 INPUT/MC7-8 (io), 56 INPUT/MC7-7 (io), 57 INPUT/MC7-6 (io), 58 INPUT/MC7-5 (io), 59 GND (power), 60 INPUT/MC7-4 (io), 61 INPUT/MC7-3 (io), 62 INPUT/MC7-2 (io), 63 INPUT/MC7-1 (io), 64 VCC (power), 65 MC6-8 (out), 66 MC6-7 (out), 67 MC6-6 (out), 68 MC6-5 (out), 69 GND (power), 70 MC6-4 (out), 71 MC6-3 (out), 72 MC6-2 (out), 73 MC6-1 (out), 74 INPUT/MC5-4 (io), 75 INPUT/MC5-3 (io), 76 INPUT/MC5-2 (io), 77 INPUT/MC5-1 (io), 78 GND (power), 79 INPUT (in), 80 INPUT (in), 81 INPUT (in), 82 INPUT (in), 83 INPUT (in), 84 INPUT (in)

## XC7272A-20PC84I
designator U?
72 Macrocell CMOS EPLD, with 42 I/O Pins, 84-Pin PLCC, Industrial Grade; PackageDocument: ver1.0, Jun-2000; Published: 8-Jun-2000; LatestRevisionDate: 17-Sep-2003; LatestRevisionNote: PCB Footprint dimensions updated; DatasheetDocument: 1994; PackageReference: PC84; Publisher: Altium Limited; Code_JEDEC: MS-047; Code_IPC: PLCC-84
footprint PC84 (84-Pin Plastic Leaded Chip Carrier (PC84))
pins: 1 RESET (in), 2 INPUT (in), 3 INPUT (in), 4 INPUT (in), 5 INPUT (in), 6 INPUT (in), 7 INPUT (in), 8 GND (power), 9 FCLK0/MC4-4 (io), 10 FCLK1/MC4-3 (io), 11 INPUT/MC4-2 (io), 12 INPUT/MC4-1 (io), 13 MC3-8 (out), 14 MC3-7 (out), 15 MC3-6 (out), 16 MC3-5 (out), 17 GND (power), 18 MC3-4 (out), 19 MC3-3 (out), 20 MC3-2 (out), 21 MC3-1 (out), 22 VCC (power), 23 INPUT/MC2-9 (io), 24 INPUT/MC2-8 (io), 25 INPUT/MC2-7 (io), 26 INPUT/MC2-6 (io), 27 GND (power), 28 INPUT/MC2-5 (io), 29 INPUT/MC2-4 (io), 30 INPUT/MC2-3 (io), 31 INPUT/MC2-2 (io), 32 INPUT/MC2-1 (io), 33 INPUT/MC1-9 (io), 34 INPUT/MC1-8 (io), 35 INPUT/MC1-7 (io), 36 INPUT/MC1-6 (io), 37 GND (power), 38 INPUT/MC1-5 (io), 39 INPUT/MC1-4 (io), 40 INPUT/MC1-3 (io), 41 INPUT/MC1-2 (io), 42 INPUT/MC1-1 (io), 43 VCC (power), 44 INPUT/MC8-9 (io), 45 INPUT/MC8-8 (io), 46 INPUT/MC8-7 (io), 47 INPUT/MC8-6 (io), 48 INPUT/MC8-5 (io), 49 GND (power), 50 INPUT/MC8-4 (io), 51 INPUT/MC8-3 (io), 52 INPUT/MC8-2 (io), 53 INPUT/MC8-1 (io), 54 INPUT/MC7-9 (io), 55 INPUT/MC7-8 (io), 56 INPUT/MC7-7 (io), 57 INPUT/MC7-6 (io), 58 INPUT/MC7-5 (io), 59 GND (power), 60 INPUT/MC7-4 (io), 61 INPUT/MC7-3 (io), 62 INPUT/MC7-2 (io), 63 INPUT/MC7-1 (io), 64 VCC (power), 65 MC6-8 (out), 66 MC6-7 (out), 67 MC6-6 (out), 68 MC6-5 (out), 69 GND (power), 70 MC6-4 (out), 71 MC6-3 (out), 72 MC6-2 (out), 73 MC6-1 (out), 74 INPUT/MC5-4 (io), 75 INPUT/MC5-3 (io), 76 INPUT/MC5-2 (io), 77 INPUT/MC5-1 (io), 78 GND (power), 79 INPUT (in), 80 INPUT (in), 81 INPUT (in), 82 INPUT (in), 83 INPUT (in), 84 INPUT (in)

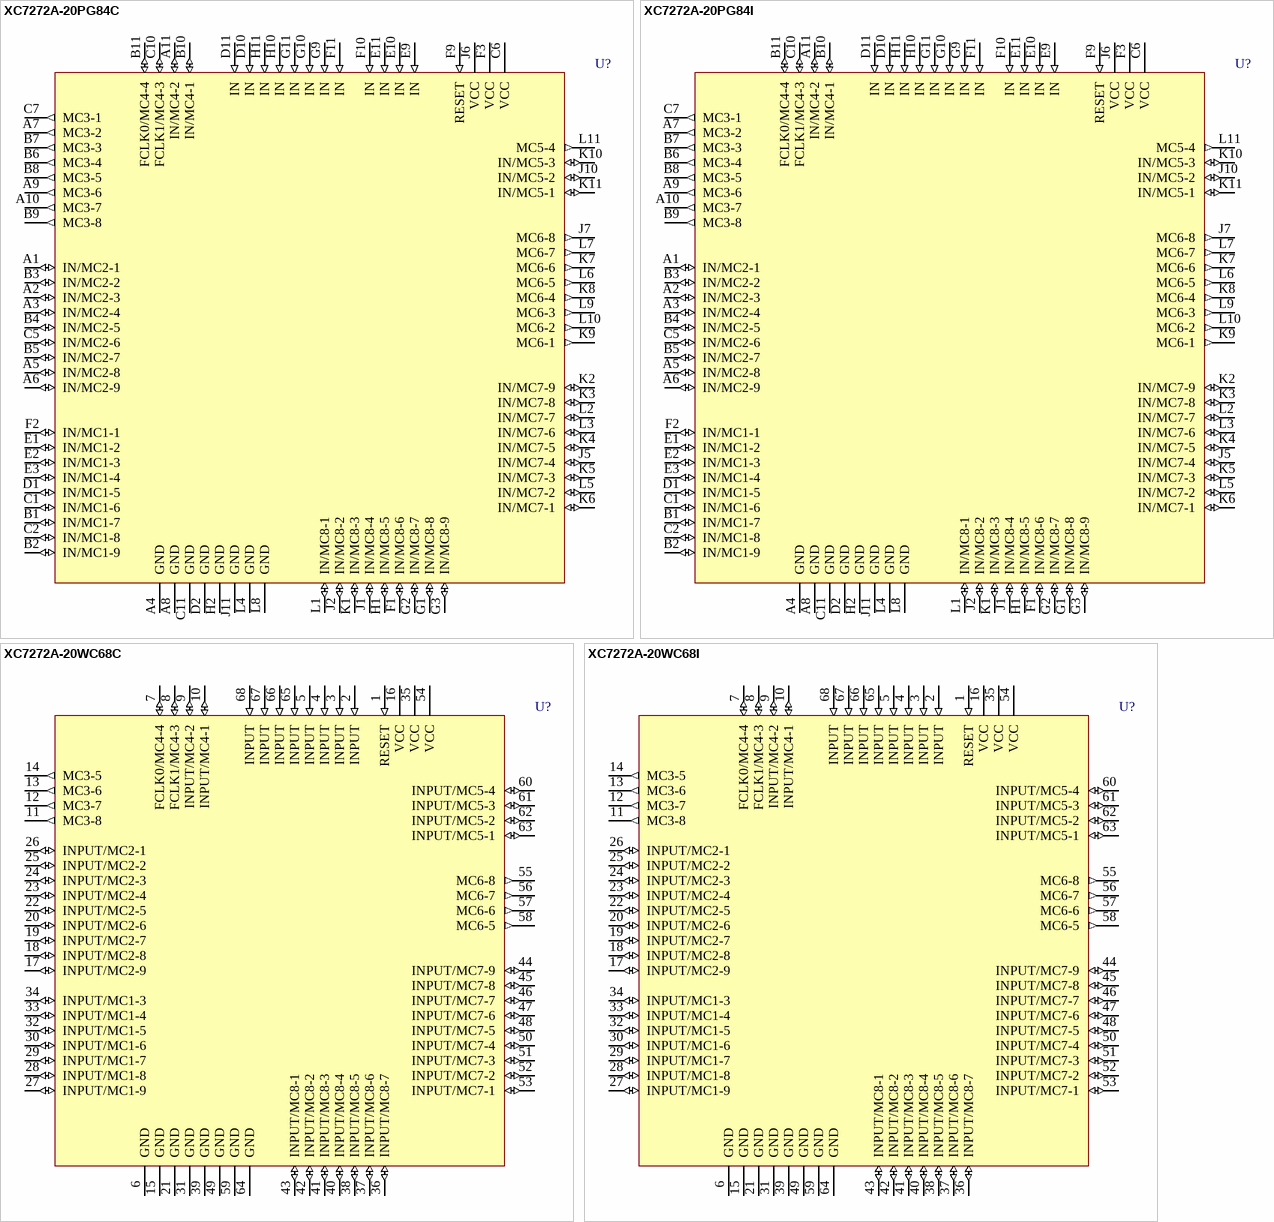
[diagram p10: symbols XC7272A-20PG84C to XC7272A-20WC68I]

## XC7272A-20PG84C
designator U?
72 Macrocell CMOS EPLD, with 42 I/O Pins, 84-Pin WCPGA, Commercial Grade; PackageDocument: 1994; Published: 8-Jun-2000; LatestRevisionDate: 17-Jul-2002; LatestRevisionNote: Re-released for DXP Platform.; DatasheetDocument: 1994; PackageReference: WG84; Publisher: Altium Limited
footprint WG84 (84-Pin Windowed Ceramic PGA (PG84))
pins: A1 IN/MC2-1 (io), A2 IN/MC2-3 (io), A3 IN/MC2-4 (io), A4 GND (power), A5 IN/MC2-8 (io), A6 IN/MC2-9 (io), A7 MC3-2 (out), A8 GND (power), A9 MC3-6 (out), A10 MC3-7 (out), A11 IN/MC4-2 (io), B1 IN/MC1-7 (io), B2 IN/MC1-9 (io), B3 IN/MC2-2 (io), B4 IN/MC2-5 (io), B5 IN/MC2-7 (io), B6 MC3-4 (out), B7 MC3-3 (out), B8 MC3-5 (out), B9 MC3-8 (out), B10 IN/MC4-1 (io), B11 FCLK0/MC4-4 (io), C1 IN/MC1-6 (io), C2 IN/MC1-8 (io), C5 IN/MC2-6 (io), C6 VCC (power), C7 MC3-1 (out), C10 FCLK1/MC4-3 (io), C11 GND (power), D1 IN/MC1-5 (io), D2 GND (power), D10 IN (in), D11 IN (in), E1 IN/MC1-2 (io), E2 IN/MC1-3 (io), E3 IN/MC1-4 (io), E9 IN (in), E10 IN (in), E11 IN (in), F1 IN/MC8-6 (io), F2 IN/MC1-1 (io), F3 VCC (power), F9 RESET (in), F10 IN (in), F11 IN (in), G1 IN/MC8-8 (io), G2 IN/MC8-7 (io), G3 IN/MC8-9 (io), G9 IN (in), G10 IN (in), G11 IN (in), H1 IN/MC8-5 (io), H2 GND (power), H10 IN (in), H11 IN (in), J1 IN/MC8-4 (io), J2 IN/MC8-2 (io), J5 IN/MC7-4 (io), J6 VCC (power), J7 MC6-8 (out), J10 IN/MC5-2 (io), J11 GND (power), K1 IN/MC8-3 (io), K2 IN/MC7-9 (io), K3 IN/MC7-8 (io), K4 IN/MC7-5 (io), K5 IN/MC7-3 (io), K6 IN/MC7-1 (io), K7 MC6-6 (out), K8 MC6-4 (out), K9 MC6-1 (out), K10 IN/MC5-3 (io), K11 IN/MC5-1 (io), L1 IN/MC8-1 (io), L2 IN/MC7-7 (io), L3 IN/MC7-6 (io), L4 GND (power), L5 IN/MC7-2 (io), L6 MC6-5 (out), L7 MC6-7 (out), L8 GND (power), L9 MC6-3 (out), L10 MC6-2 (out), L11 MC5-4 (out)

## XC7272A-20PG84I
designator U?
72 Macrocell CMOS EPLD, with 42 I/O Pins, 84-Pin WCPGA, Industrial Grade; PackageDocument: 1994; Published: 8-Jun-2000; LatestRevisionDate: 17-Jul-2002; LatestRevisionNote: Re-released for DXP Platform.; DatasheetDocument: 1994; PackageReference: WG84; Publisher: Altium Limited
footprint WG84 (84-Pin Windowed Ceramic PGA (PG84))
pins: A1 IN/MC2-1 (io), A2 IN/MC2-3 (io), A3 IN/MC2-4 (io), A4 GND (power), A5 IN/MC2-8 (io), A6 IN/MC2-9 (io), A7 MC3-2 (out), A8 GND (power), A9 MC3-6 (out), A10 MC3-7 (out), A11 IN/MC4-2 (io), B1 IN/MC1-7 (io), B2 IN/MC1-9 (io), B3 IN/MC2-2 (io), B4 IN/MC2-5 (io), B5 IN/MC2-7 (io), B6 MC3-4 (out), B7 MC3-3 (out), B8 MC3-5 (out), B9 MC3-8 (out), B10 IN/MC4-1 (io), B11 FCLK0/MC4-4 (io), C1 IN/MC1-6 (io), C2 IN/MC1-8 (io), C5 IN/MC2-6 (io), C6 VCC (power), C7 MC3-1 (out), C10 FCLK1/MC4-3 (io), C11 GND (power), D1 IN/MC1-5 (io), D2 GND (power), D10 IN (in), D11 IN (in), E1 IN/MC1-2 (io), E2 IN/MC1-3 (io), E3 IN/MC1-4 (io), E9 IN (in), E10 IN (in), E11 IN (in), F1 IN/MC8-6 (io), F2 IN/MC1-1 (io), F3 VCC (power), F9 RESET (in), F10 IN (in), F11 IN (in), G1 IN/MC8-8 (io), G2 IN/MC8-7 (io), G3 IN/MC8-9 (io), G9 IN (in), G10 IN (in), G11 IN (in), H1 IN/MC8-5 (io), H2 GND (power), H10 IN (in), H11 IN (in), J1 IN/MC8-4 (io), J2 IN/MC8-2 (io), J5 IN/MC7-4 (io), J6 VCC (power), J7 MC6-8 (out), J10 IN/MC5-2 (io), J11 GND (power), K1 IN/MC8-3 (io), K2 IN/MC7-9 (io), K3 IN/MC7-8 (io), K4 IN/MC7-5 (io), K5 IN/MC7-3 (io), K6 IN/MC7-1 (io), K7 MC6-6 (out), K8 MC6-4 (out), K9 MC6-1 (out), K10 IN/MC5-3 (io), K11 IN/MC5-1 (io), L1 IN/MC8-1 (io), L2 IN/MC7-7 (io), L3 IN/MC7-6 (io), L4 GND (power), L5 IN/MC7-2 (io), L6 MC6-5 (out), L7 MC6-7 (out), L8 GND (power), L9 MC6-3 (out), L10 MC6-2 (out), L11 MC5-4 (out)

## XC7272A-20WC68C
designator U?
72 Macrocell CMOS EPLD, with 38 I/O Pins, 68-Pin CLCC, Commercial Grade; PackageDocument: 1994; Published: 8-Jun-2000; LatestRevisionDate: 17-Jul-2002; LatestRevisionNote: Re-released for DXP Platform.; DatasheetDocument: 1994; PackageReference: WC68; Publisher: Altium Limited
footprint WC68 (68-Pin Windowed Ceramic Leaded Chip Carrier (WC68))
pins: 1 RESET (in), 2 INPUT (in), 3 INPUT (in), 4 INPUT (in), 5 INPUT (in), 6 GND (power), 7 FCLK0/MC4-4 (io), 8 FCLK1/MC4-3 (io), 9 INPUT/MC4-2 (io), 10 INPUT/MC4-1 (io), 11 MC3-8 (out), 12 MC3-7 (out), 13 MC3-6 (out), 14 MC3-5 (out), 15 GND (power), 16 VCC (power), 17 INPUT/MC2-9 (io), 18 INPUT/MC2-8 (io), 19 INPUT/MC2-7 (io), 20 INPUT/MC2-6 (io), 21 GND (power), 22 INPUT/MC2-5 (io), 23 INPUT/MC2-4 (io), 24 INPUT/MC2-3 (io), 25 INPUT/MC2-2 (io), 26 INPUT/MC2-1 (io), 27 INPUT/MC1-9 (io), 28 INPUT/MC1-8 (io), 29 INPUT/MC1-7 (io), 30 INPUT/MC1-6 (io), 31 GND (power), 32 INPUT/MC1-5 (io), 33 INPUT/MC1-4 (io), 34 INPUT/MC1-3 (io), 35 VCC (power), 36 INPUT/MC8-7 (io), 37 INPUT/MC8-6 (io), 38 INPUT/MC8-5 (io), 39 GND (power), 40 INPUT/MC8-4 (io), 41 INPUT/MC8-3 (io), 42 INPUT/MC8-2 (io), 43 INPUT/MC8-1 (io), 44 INPUT/MC7-9 (io), 45 INPUT/MC7-8 (io), 46 INPUT/MC7-7 (io), 47 INPUT/MC7-6 (io), 48 INPUT/MC7-5 (io), 49 GND (power), 50 INPUT/MC7-4 (io), 51 INPUT/MC7-3 (io), 52 INPUT/MC7-2 (io), 53 INPUT/MC7-1 (io), 54 VCC (power), 55 MC6-8 (out), 56 MC6-7 (out), 57 MC6-6 (out), 58 MC6-5 (out), 59 GND, 60 INPUT/MC5-4 (io), 61 INPUT/MC5-3 (io), 62 INPUT/MC5-2 (io), 63 INPUT/MC5-1 (io), 64 GND (power), 65 INPUT (in), 66 INPUT (in), 67 INPUT (in), 68 INPUT (in)

## XC7272A-20WC68I
designator U?
72 Macrocell CMOS EPLD, with 38 I/O Pins, 68-Pin CLCC, Industrial Grade; PackageDocument: 1994; Published: 8-Jun-2000; LatestRevisionDate: 17-Jul-2002; LatestRevisionNote: Re-released for DXP Platform.; DatasheetDocument: 1994; PackageReference: WC68; Publisher: Altium Limited
footprint WC68 (68-Pin Windowed Ceramic Leaded Chip Carrier (WC68))
pins: 1 RESET (in), 2 INPUT (in), 3 INPUT (in), 4 INPUT (in), 5 INPUT (in), 6 GND (power), 7 FCLK0/MC4-4 (io), 8 FCLK1/MC4-3 (io), 9 INPUT/MC4-2 (io), 10 INPUT/MC4-1 (io), 11 MC3-8 (out), 12 MC3-7 (out), 13 MC3-6 (out), 14 MC3-5 (out), 15 GND (power), 16 VCC (power), 17 INPUT/MC2-9 (io), 18 INPUT/MC2-8 (io), 19 INPUT/MC2-7 (io), 20 INPUT/MC2-6 (io), 21 GND (power), 22 INPUT/MC2-5 (io), 23 INPUT/MC2-4 (io), 24 INPUT/MC2-3 (io), 25 INPUT/MC2-2 (io), 26 INPUT/MC2-1 (io), 27 INPUT/MC1-9 (io), 28 INPUT/MC1-8 (io), 29 INPUT/MC1-7 (io), 30 INPUT/MC1-6 (io), 31 GND (power), 32 INPUT/MC1-5 (io), 33 INPUT/MC1-4 (io), 34 INPUT/MC1-3 (io), 35 VCC (power), 36 INPUT/MC8-7 (io), 37 INPUT/MC8-6 (io), 38 INPUT/MC8-5 (io), 39 GND (power), 40 INPUT/MC8-4 (io), 41 INPUT/MC8-3 (io), 42 INPUT/MC8-2 (io), 43 INPUT/MC8-1 (io), 44 INPUT/MC7-9 (io), 45 INPUT/MC7-8 (io), 46 INPUT/MC7-7 (io), 47 INPUT/MC7-6 (io), 48 INPUT/MC7-5 (io), 49 GND (power), 50 INPUT/MC7-4 (io), 51 INPUT/MC7-3 (io), 52 INPUT/MC7-2 (io), 53 INPUT/MC7-1 (io), 54 VCC (power), 55 MC6-8 (out), 56 MC6-7 (out), 57 MC6-6 (out), 58 MC6-5 (out), 59 GND, 60 INPUT/MC5-4 (io), 61 INPUT/MC5-3 (io), 62 INPUT/MC5-2 (io), 63 INPUT/MC5-1 (io), 64 GND (power), 65 INPUT (in), 66 INPUT (in), 67 INPUT (in), 68 INPUT (in)

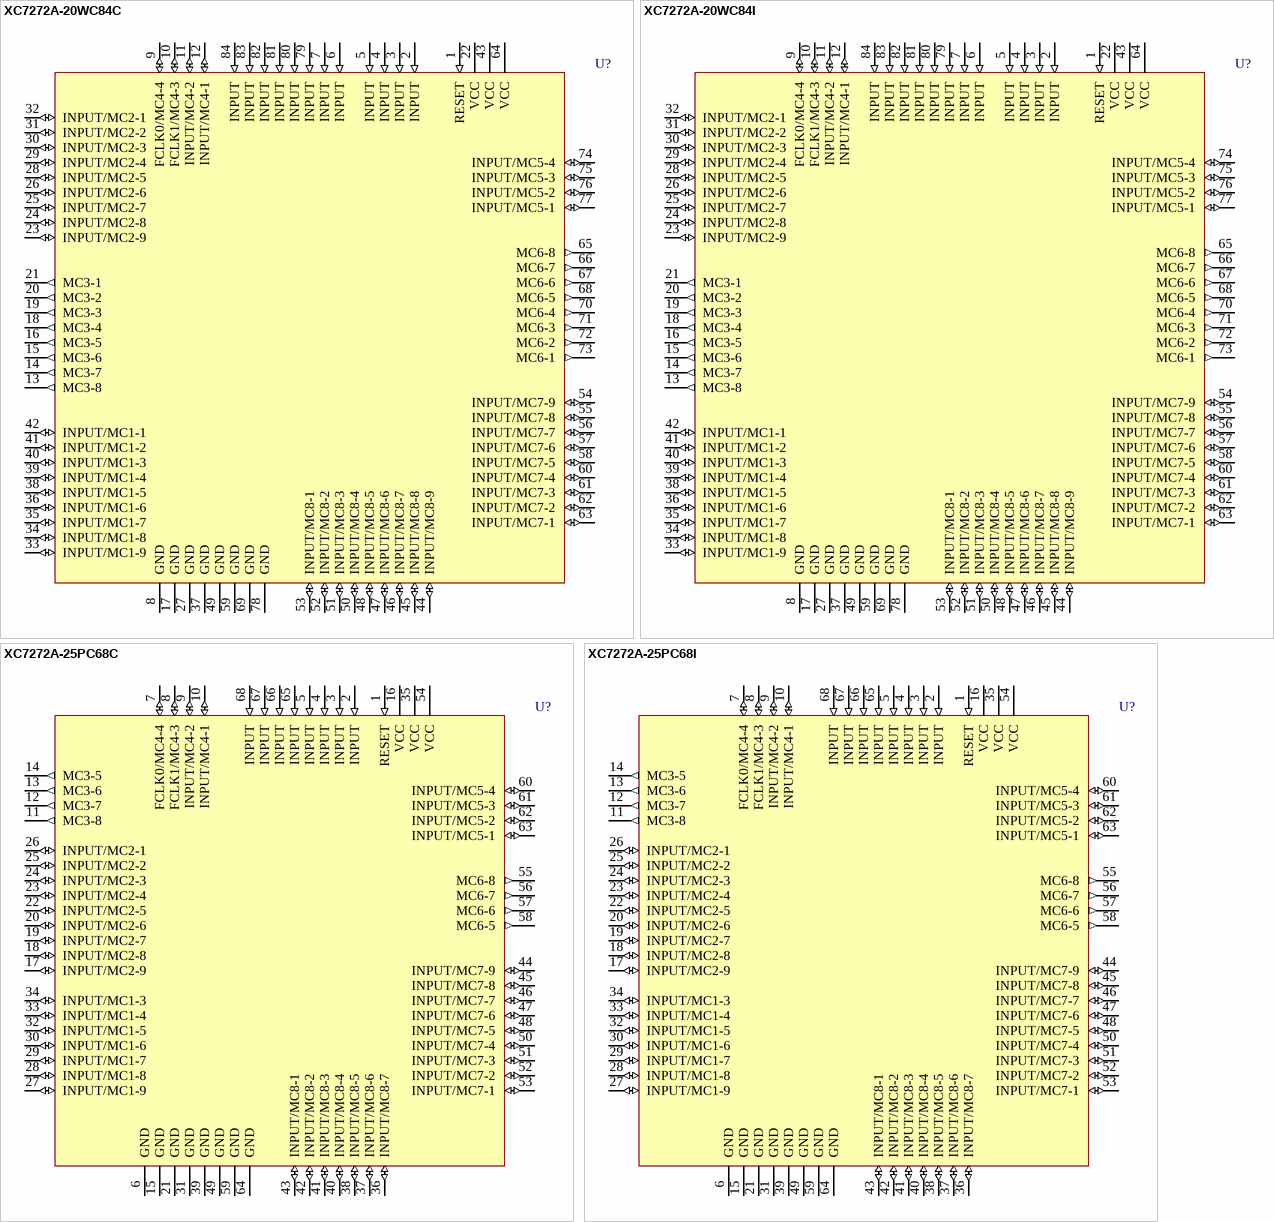
[diagram p11: symbols XC7272A-20WC84C to XC7272A-25PC68I]

## XC7272A-20WC84C
designator U?
72 Macrocell CMOS EPLD, with 42 I/O Pins, 84-Pin CLCC, Commercial Grade; PackageDocument: 1994; Published: 8-Jun-2000; LatestRevisionDate: 17-Jul-2002; LatestRevisionNote: Re-released for DXP Platform.; DatasheetDocument: 1994; PackageReference: WC84; Publisher: Altium Limited
footprint WC84 (84-Pin Windowed Ceramic Leaded Chip Carrier (WC84))
pins: 1 RESET (in), 2 INPUT (in), 3 INPUT (in), 4 INPUT (in), 5 INPUT (in), 6 INPUT (in), 7 INPUT (in), 8 GND (power), 9 FCLK0/MC4-4 (io), 10 FCLK1/MC4-3 (io), 11 INPUT/MC4-2 (io), 12 INPUT/MC4-1 (io), 13 MC3-8 (out), 14 MC3-7 (out), 15 MC3-6 (out), 16 MC3-5 (out), 17 GND (power), 18 MC3-4 (out), 19 MC3-3 (out), 20 MC3-2 (out), 21 MC3-1 (out), 22 VCC (power), 23 INPUT/MC2-9 (io), 24 INPUT/MC2-8 (io), 25 INPUT/MC2-7 (io), 26 INPUT/MC2-6 (io), 27 GND (power), 28 INPUT/MC2-5 (io), 29 INPUT/MC2-4 (io), 30 INPUT/MC2-3 (io), 31 INPUT/MC2-2 (io), 32 INPUT/MC2-1 (io), 33 INPUT/MC1-9 (io), 34 INPUT/MC1-8 (io), 35 INPUT/MC1-7 (io), 36 INPUT/MC1-6 (io), 37 GND (power), 38 INPUT/MC1-5 (io), 39 INPUT/MC1-4 (io), 40 INPUT/MC1-3 (io), 41 INPUT/MC1-2 (io), 42 INPUT/MC1-1 (io), 43 VCC (power), 44 INPUT/MC8-9 (io), 45 INPUT/MC8-8 (io), 46 INPUT/MC8-7 (io), 47 INPUT/MC8-6 (io), 48 INPUT/MC8-5 (io), 49 GND (power), 50 INPUT/MC8-4 (io), 51 INPUT/MC8-3 (io), 52 INPUT/MC8-2 (io), 53 INPUT/MC8-1 (io), 54 INPUT/MC7-9 (io), 55 INPUT/MC7-8 (io), 56 INPUT/MC7-7 (io), 57 INPUT/MC7-6 (io), 58 INPUT/MC7-5 (io), 59 GND (power), 60 INPUT/MC7-4 (io), 61 INPUT/MC7-3 (io), 62 INPUT/MC7-2 (io), 63 INPUT/MC7-1 (io), 64 VCC (power), 65 MC6-8 (out), 66 MC6-7 (out), 67 MC6-6 (out), 68 MC6-5 (out), 69 GND (power), 70 MC6-4 (out), 71 MC6-3 (out), 72 MC6-2 (out), 73 MC6-1 (out), 74 INPUT/MC5-4 (io), 75 INPUT/MC5-3 (io), 76 INPUT/MC5-2 (io), 77 INPUT/MC5-1 (io), 78 GND (power), 79 INPUT (in), 80 INPUT (in), 81 INPUT (in), 82 INPUT (in), 83 INPUT (in), 84 INPUT (in)

## XC7272A-20WC84I
designator U?
72 Macrocell CMOS EPLD, with 42 I/O Pins, 84-Pin CLCC, Industrial Grade; PackageDocument: 1994; Published: 8-Jun-2000; LatestRevisionDate: 17-Jul-2002; LatestRevisionNote: Re-released for DXP Platform.; DatasheetDocument: 1994; PackageReference: WC84; Publisher: Altium Limited
footprint WC84 (84-Pin Windowed Ceramic Leaded Chip Carrier (WC84))
pins: 1 RESET (in), 2 INPUT (in), 3 INPUT (in), 4 INPUT (in), 5 INPUT (in), 6 INPUT (in), 7 INPUT (in), 8 GND (power), 9 FCLK0/MC4-4 (io), 10 FCLK1/MC4-3 (io), 11 INPUT/MC4-2 (io), 12 INPUT/MC4-1 (io), 13 MC3-8 (out), 14 MC3-7 (out), 15 MC3-6 (out), 16 MC3-5 (out), 17 GND (power), 18 MC3-4 (out), 19 MC3-3 (out), 20 MC3-2 (out), 21 MC3-1 (out), 22 VCC (power), 23 INPUT/MC2-9 (io), 24 INPUT/MC2-8 (io), 25 INPUT/MC2-7 (io), 26 INPUT/MC2-6 (io), 27 GND (power), 28 INPUT/MC2-5 (io), 29 INPUT/MC2-4 (io), 30 INPUT/MC2-3 (io), 31 INPUT/MC2-2 (io), 32 INPUT/MC2-1 (io), 33 INPUT/MC1-9 (io), 34 INPUT/MC1-8 (io), 35 INPUT/MC1-7 (io), 36 INPUT/MC1-6 (io), 37 GND (power), 38 INPUT/MC1-5 (io), 39 INPUT/MC1-4 (io), 40 INPUT/MC1-3 (io), 41 INPUT/MC1-2 (io), 42 INPUT/MC1-1 (io), 43 VCC (power), 44 INPUT/MC8-9 (io), 45 INPUT/MC8-8 (io), 46 INPUT/MC8-7 (io), 47 INPUT/MC8-6 (io), 48 INPUT/MC8-5 (io), 49 GND (power), 50 INPUT/MC8-4 (io), 51 INPUT/MC8-3 (io), 52 INPUT/MC8-2 (io), 53 INPUT/MC8-1 (io), 54 INPUT/MC7-9 (io), 55 INPUT/MC7-8 (io), 56 INPUT/MC7-7 (io), 57 INPUT/MC7-6 (io), 58 INPUT/MC7-5 (io), 59 GND (power), 60 INPUT/MC7-4 (io), 61 INPUT/MC7-3 (io), 62 INPUT/MC7-2 (io), 63 INPUT/MC7-1 (io), 64 VCC (power), 65 MC6-8 (out), 66 MC6-7 (out), 67 MC6-6 (out), 68 MC6-5 (out), 69 GND (power), 70 MC6-4 (out), 71 MC6-3 (out), 72 MC6-2 (out), 73 MC6-1 (out), 74 INPUT/MC5-4 (io), 75 INPUT/MC5-3 (io), 76 INPUT/MC5-2 (io), 77 INPUT/MC5-1 (io), 78 GND (power), 79 INPUT (in), 80 INPUT (in), 81 INPUT (in), 82 INPUT (in), 83 INPUT (in), 84 INPUT (in)

## XC7272A-25PC68C
designator U?
72 Macrocell CMOS EPLD, with 38 I/O Pins, 68-Pin PLCC, Commercial Grade; PackageDocument: ver1.0, Jun-2000; Published: 8-Jun-2000; LatestRevisionDate: 17-Sep-2003; LatestRevisionNote: PCB Footprint dimensions updated; DatasheetDocument: 1994; PackageReference: PC68; Publisher: Altium Limited; Code_JEDEC: MO-047; Code_IPC: PLCC-68
footprint PC68 (68-Pin Plastic Leaded Chip Carrier (PC68))
pins: 1 RESET (in), 2 INPUT (in), 3 INPUT (in), 4 INPUT (in), 5 INPUT (in), 6 GND (power), 7 FCLK0/MC4-4 (io), 8 FCLK1/MC4-3 (io), 9 INPUT/MC4-2 (io), 10 INPUT/MC4-1 (io), 11 MC3-8 (out), 12 MC3-7 (out), 13 MC3-6 (out), 14 MC3-5 (out), 15 GND (power), 16 VCC (power), 17 INPUT/MC2-9 (io), 18 INPUT/MC2-8 (io), 19 INPUT/MC2-7 (io), 20 INPUT/MC2-6 (io), 21 GND (power), 22 INPUT/MC2-5 (io), 23 INPUT/MC2-4 (io), 24 INPUT/MC2-3 (io), 25 INPUT/MC2-2 (io), 26 INPUT/MC2-1 (io), 27 INPUT/MC1-9 (io), 28 INPUT/MC1-8 (io), 29 INPUT/MC1-7 (io), 30 INPUT/MC1-6 (io), 31 GND (power), 32 INPUT/MC1-5 (io), 33 INPUT/MC1-4 (io), 34 INPUT/MC1-3 (io), 35 VCC (power), 36 INPUT/MC8-7 (io), 37 INPUT/MC8-6 (io), 38 INPUT/MC8-5 (io), 39 GND (power), 40 INPUT/MC8-4 (io), 41 INPUT/MC8-3 (io), 42 INPUT/MC8-2 (io), 43 INPUT/MC8-1 (io), 44 INPUT/MC7-9 (io), 45 INPUT/MC7-8 (io), 46 INPUT/MC7-7 (io), 47 INPUT/MC7-6 (io), 48 INPUT/MC7-5 (io), 49 GND (power), 50 INPUT/MC7-4 (io), 51 INPUT/MC7-3 (io), 52 INPUT/MC7-2 (io), 53 INPUT/MC7-1 (io), 54 VCC (power), 55 MC6-8 (out), 56 MC6-7 (out), 57 MC6-6 (out), 58 MC6-5 (out), 59 GND, 60 INPUT/MC5-4 (io), 61 INPUT/MC5-3 (io), 62 INPUT/MC5-2 (io), 63 INPUT/MC5-1 (io), 64 GND (power), 65 INPUT (in), 66 INPUT (in), 67 INPUT (in), 68 INPUT (in)

## XC7272A-25PC68I
designator U?
72 Macrocell CMOS EPLD, with 38 I/O Pins, 68-Pin PLCC, Industrial Grade; PackageDocument: ver1.0, Jun-2000; Published: 8-Jun-2000; LatestRevisionDate: 17-Sep-2003; LatestRevisionNote: PCB Footprint dimensions updated; DatasheetDocument: 1994; PackageReference: PC68; Publisher: Altium Limited; Code_JEDEC: MO-047; Code_IPC: PLCC-68
footprint PC68 (68-Pin Plastic Leaded Chip Carrier (PC68))
pins: 1 RESET (in), 2 INPUT (in), 3 INPUT (in), 4 INPUT (in), 5 INPUT (in), 6 GND (power), 7 FCLK0/MC4-4 (io), 8 FCLK1/MC4-3 (io), 9 INPUT/MC4-2 (io), 10 INPUT/MC4-1 (io), 11 MC3-8 (out), 12 MC3-7 (out), 13 MC3-6 (out), 14 MC3-5 (out), 15 GND (power), 16 VCC (power), 17 INPUT/MC2-9 (io), 18 INPUT/MC2-8 (io), 19 INPUT/MC2-7 (io), 20 INPUT/MC2-6 (io), 21 GND (power), 22 INPUT/MC2-5 (io), 23 INPUT/MC2-4 (io), 24 INPUT/MC2-3 (io), 25 INPUT/MC2-2 (io), 26 INPUT/MC2-1 (io), 27 INPUT/MC1-9 (io), 28 INPUT/MC1-8 (io), 29 INPUT/MC1-7 (io), 30 INPUT/MC1-6 (io), 31 GND (power), 32 INPUT/MC1-5 (io), 33 INPUT/MC1-4 (io), 34 INPUT/MC1-3 (io), 35 VCC (power), 36 INPUT/MC8-7 (io), 37 INPUT/MC8-6 (io), 38 INPUT/MC8-5 (io), 39 GND (power), 40 INPUT/MC8-4 (io), 41 INPUT/MC8-3 (io), 42 INPUT/MC8-2 (io), 43 INPUT/MC8-1 (io), 44 INPUT/MC7-9 (io), 45 INPUT/MC7-8 (io), 46 INPUT/MC7-7 (io), 47 INPUT/MC7-6 (io), 48 INPUT/MC7-5 (io), 49 GND (power), 50 INPUT/MC7-4 (io), 51 INPUT/MC7-3 (io), 52 INPUT/MC7-2 (io), 53 INPUT/MC7-1 (io), 54 VCC (power), 55 MC6-8 (out), 56 MC6-7 (out), 57 MC6-6 (out), 58 MC6-5 (out), 59 GND, 60 INPUT/MC5-4 (io), 61 INPUT/MC5-3 (io), 62 INPUT/MC5-2 (io), 63 INPUT/MC5-1 (io), 64 GND (power), 65 INPUT (in), 66 INPUT (in), 67 INPUT (in), 68 INPUT (in)

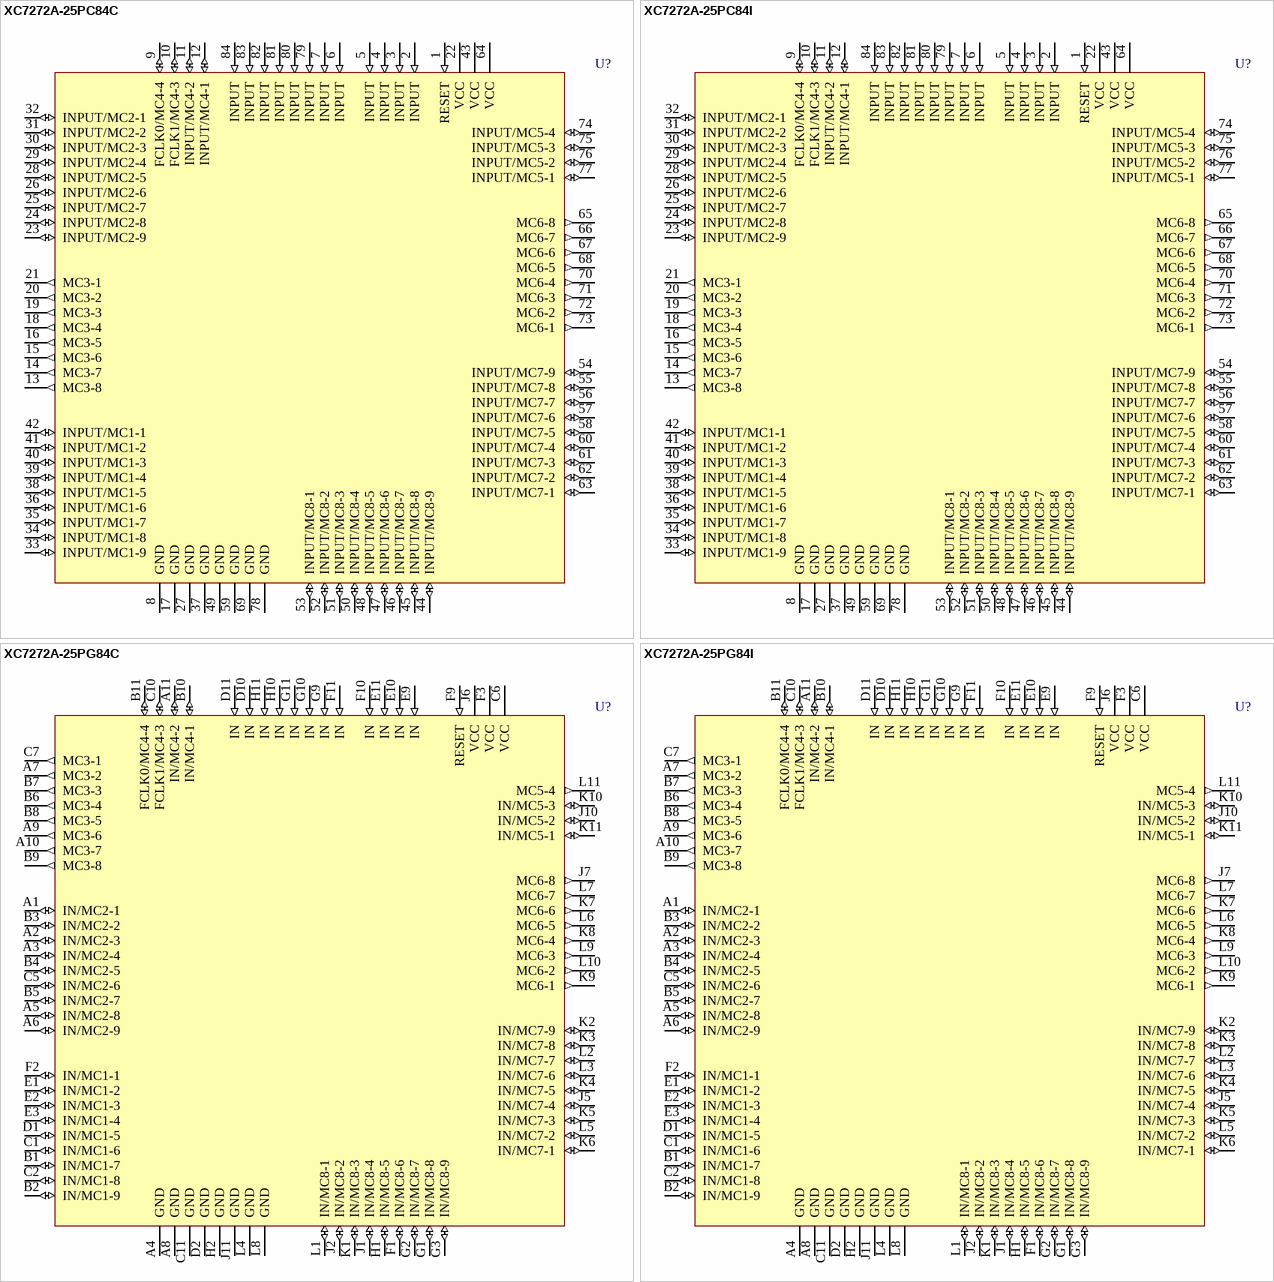
[diagram p12: symbols XC7272A-25PC84C to XC7272A-25PG84I]

## XC7272A-25PC84C
designator U?
72 Macrocell CMOS EPLD, with 42 I/O Pins, 84-Pin PLCC, Commercial Grade; PackageDocument: ver1.0, Jun-2000; Published: 8-Jun-2000; LatestRevisionDate: 17-Sep-2003; LatestRevisionNote: PCB Footprint dimensions updated; DatasheetDocument: 1994; PackageReference: PC84; Publisher: Altium Limited; Code_JEDEC: MS-047; Code_IPC: PLCC-84
footprint PC84 (84-Pin Plastic Leaded Chip Carrier (PC84))
pins: 1 RESET (in), 2 INPUT (in), 3 INPUT (in), 4 INPUT (in), 5 INPUT (in), 6 INPUT (in), 7 INPUT (in), 8 GND (power), 9 FCLK0/MC4-4 (io), 10 FCLK1/MC4-3 (io), 11 INPUT/MC4-2 (io), 12 INPUT/MC4-1 (io), 13 MC3-8 (out), 14 MC3-7 (out), 15 MC3-6 (out), 16 MC3-5 (out), 17 GND (power), 18 MC3-4 (out), 19 MC3-3 (out), 20 MC3-2 (out), 21 MC3-1 (out), 22 VCC (power), 23 INPUT/MC2-9 (io), 24 INPUT/MC2-8 (io), 25 INPUT/MC2-7 (io), 26 INPUT/MC2-6 (io), 27 GND (power), 28 INPUT/MC2-5 (io), 29 INPUT/MC2-4 (io), 30 INPUT/MC2-3 (io), 31 INPUT/MC2-2 (io), 32 INPUT/MC2-1 (io), 33 INPUT/MC1-9 (io), 34 INPUT/MC1-8 (io), 35 INPUT/MC1-7 (io), 36 INPUT/MC1-6 (io), 37 GND (power), 38 INPUT/MC1-5 (io), 39 INPUT/MC1-4 (io), 40 INPUT/MC1-3 (io), 41 INPUT/MC1-2 (io), 42 INPUT/MC1-1 (io), 43 VCC (power), 44 INPUT/MC8-9 (io), 45 INPUT/MC8-8 (io), 46 INPUT/MC8-7 (io), 47 INPUT/MC8-6 (io), 48 INPUT/MC8-5 (io), 49 GND (power), 50 INPUT/MC8-4 (io), 51 INPUT/MC8-3 (io), 52 INPUT/MC8-2 (io), 53 INPUT/MC8-1 (io), 54 INPUT/MC7-9 (io), 55 INPUT/MC7-8 (io), 56 INPUT/MC7-7 (io), 57 INPUT/MC7-6 (io), 58 INPUT/MC7-5 (io), 59 GND (power), 60 INPUT/MC7-4 (io), 61 INPUT/MC7-3 (io), 62 INPUT/MC7-2 (io), 63 INPUT/MC7-1 (io), 64 VCC (power), 65 MC6-8 (out), 66 MC6-7 (out), 67 MC6-6 (out), 68 MC6-5 (out), 69 GND (power), 70 MC6-4 (out), 71 MC6-3 (out), 72 MC6-2 (out), 73 MC6-1 (out), 74 INPUT/MC5-4 (io), 75 INPUT/MC5-3 (io), 76 INPUT/MC5-2 (io), 77 INPUT/MC5-1 (io), 78 GND (power), 79 INPUT (in), 80 INPUT (in), 81 INPUT (in), 82 INPUT (in), 83 INPUT (in), 84 INPUT (in)

## XC7272A-25PC84I
designator U?
72 Macrocell CMOS EPLD, with 42 I/O Pins, 84-Pin PLCC, Industrial Grade; PackageDocument: ver1.0, Jun-2000; Published: 8-Jun-2000; LatestRevisionDate: 17-Sep-2003; LatestRevisionNote: PCB Footprint dimensions updated; DatasheetDocument: 1994; PackageReference: PC84; Publisher: Altium Limited; Code_JEDEC: MS-047; Code_IPC: PLCC-84
footprint PC84 (84-Pin Plastic Leaded Chip Carrier (PC84))
pins: 1 RESET (in), 2 INPUT (in), 3 INPUT (in), 4 INPUT (in), 5 INPUT (in), 6 INPUT (in), 7 INPUT (in), 8 GND (power), 9 FCLK0/MC4-4 (io), 10 FCLK1/MC4-3 (io), 11 INPUT/MC4-2 (io), 12 INPUT/MC4-1 (io), 13 MC3-8 (out), 14 MC3-7 (out), 15 MC3-6 (out), 16 MC3-5 (out), 17 GND (power), 18 MC3-4 (out), 19 MC3-3 (out), 20 MC3-2 (out), 21 MC3-1 (out), 22 VCC (power), 23 INPUT/MC2-9 (io), 24 INPUT/MC2-8 (io), 25 INPUT/MC2-7 (io), 26 INPUT/MC2-6 (io), 27 GND (power), 28 INPUT/MC2-5 (io), 29 INPUT/MC2-4 (io), 30 INPUT/MC2-3 (io), 31 INPUT/MC2-2 (io), 32 INPUT/MC2-1 (io), 33 INPUT/MC1-9 (io), 34 INPUT/MC1-8 (io), 35 INPUT/MC1-7 (io), 36 INPUT/MC1-6 (io), 37 GND (power), 38 INPUT/MC1-5 (io), 39 INPUT/MC1-4 (io), 40 INPUT/MC1-3 (io), 41 INPUT/MC1-2 (io), 42 INPUT/MC1-1 (io), 43 VCC (power), 44 INPUT/MC8-9 (io), 45 INPUT/MC8-8 (io), 46 INPUT/MC8-7 (io), 47 INPUT/MC8-6 (io), 48 INPUT/MC8-5 (io), 49 GND (power), 50 INPUT/MC8-4 (io), 51 INPUT/MC8-3 (io), 52 INPUT/MC8-2 (io), 53 INPUT/MC8-1 (io), 54 INPUT/MC7-9 (io), 55 INPUT/MC7-8 (io), 56 INPUT/MC7-7 (io), 57 INPUT/MC7-6 (io), 58 INPUT/MC7-5 (io), 59 GND (power), 60 INPUT/MC7-4 (io), 61 INPUT/MC7-3 (io), 62 INPUT/MC7-2 (io), 63 INPUT/MC7-1 (io), 64 VCC (power), 65 MC6-8 (out), 66 MC6-7 (out), 67 MC6-6 (out), 68 MC6-5 (out), 69 GND (power), 70 MC6-4 (out), 71 MC6-3 (out), 72 MC6-2 (out), 73 MC6-1 (out), 74 INPUT/MC5-4 (io), 75 INPUT/MC5-3 (io), 76 INPUT/MC5-2 (io), 77 INPUT/MC5-1 (io), 78 GND (power), 79 INPUT (in), 80 INPUT (in), 81 INPUT (in), 82 INPUT (in), 83 INPUT (in), 84 INPUT (in)

## XC7272A-25PG84C
designator U?
72 Macrocell CMOS EPLD, with 42 I/O Pins, 84-Pin WCPGA, Commercial Grade; PackageDocument: 1994; Published: 8-Jun-2000; LatestRevisionDate: 17-Jul-2002; LatestRevisionNote: Re-released for DXP Platform.; DatasheetDocument: 1994; PackageReference: WG84; Publisher: Altium Limited
footprint WG84 (84-Pin Windowed Ceramic PGA (PG84))
pins: A1 IN/MC2-1 (io), A2 IN/MC2-3 (io), A3 IN/MC2-4 (io), A4 GND (power), A5 IN/MC2-8 (io), A6 IN/MC2-9 (io), A7 MC3-2 (out), A8 GND (power), A9 MC3-6 (out), A10 MC3-7 (out), A11 IN/MC4-2 (io), B1 IN/MC1-7 (io), B2 IN/MC1-9 (io), B3 IN/MC2-2 (io), B4 IN/MC2-5 (io), B5 IN/MC2-7 (io), B6 MC3-4 (out), B7 MC3-3 (out), B8 MC3-5 (out), B9 MC3-8 (out), B10 IN/MC4-1 (io), B11 FCLK0/MC4-4 (io), C1 IN/MC1-6 (io), C2 IN/MC1-8 (io), C5 IN/MC2-6 (io), C6 VCC (power), C7 MC3-1 (out), C10 FCLK1/MC4-3 (io), C11 GND (power), D1 IN/MC1-5 (io), D2 GND (power), D10 IN (in), D11 IN (in), E1 IN/MC1-2 (io), E2 IN/MC1-3 (io), E3 IN/MC1-4 (io), E9 IN (in), E10 IN (in), E11 IN (in), F1 IN/MC8-6 (io), F2 IN/MC1-1 (io), F3 VCC (power), F9 RESET (in), F10 IN (in), F11 IN (in), G1 IN/MC8-8 (io), G2 IN/MC8-7 (io), G3 IN/MC8-9 (io), G9 IN (in), G10 IN (in), G11 IN (in), H1 IN/MC8-5 (io), H2 GND (power), H10 IN (in), H11 IN (in), J1 IN/MC8-4 (io), J2 IN/MC8-2 (io), J5 IN/MC7-4 (io), J6 VCC (power), J7 MC6-8 (out), J10 IN/MC5-2 (io), J11 GND (power), K1 IN/MC8-3 (io), K2 IN/MC7-9 (io), K3 IN/MC7-8 (io), K4 IN/MC7-5 (io), K5 IN/MC7-3 (io), K6 IN/MC7-1 (io), K7 MC6-6 (out), K8 MC6-4 (out), K9 MC6-1 (out), K10 IN/MC5-3 (io), K11 IN/MC5-1 (io), L1 IN/MC8-1 (io), L2 IN/MC7-7 (io), L3 IN/MC7-6 (io), L4 GND (power), L5 IN/MC7-2 (io), L6 MC6-5 (out), L7 MC6-7 (out), L8 GND (power), L9 MC6-3 (out), L10 MC6-2 (out), L11 MC5-4 (out)